# Altium schematic symbol library dungvh03-CERN_Logic.SchLib: 486 symbols (part 13 of 54)
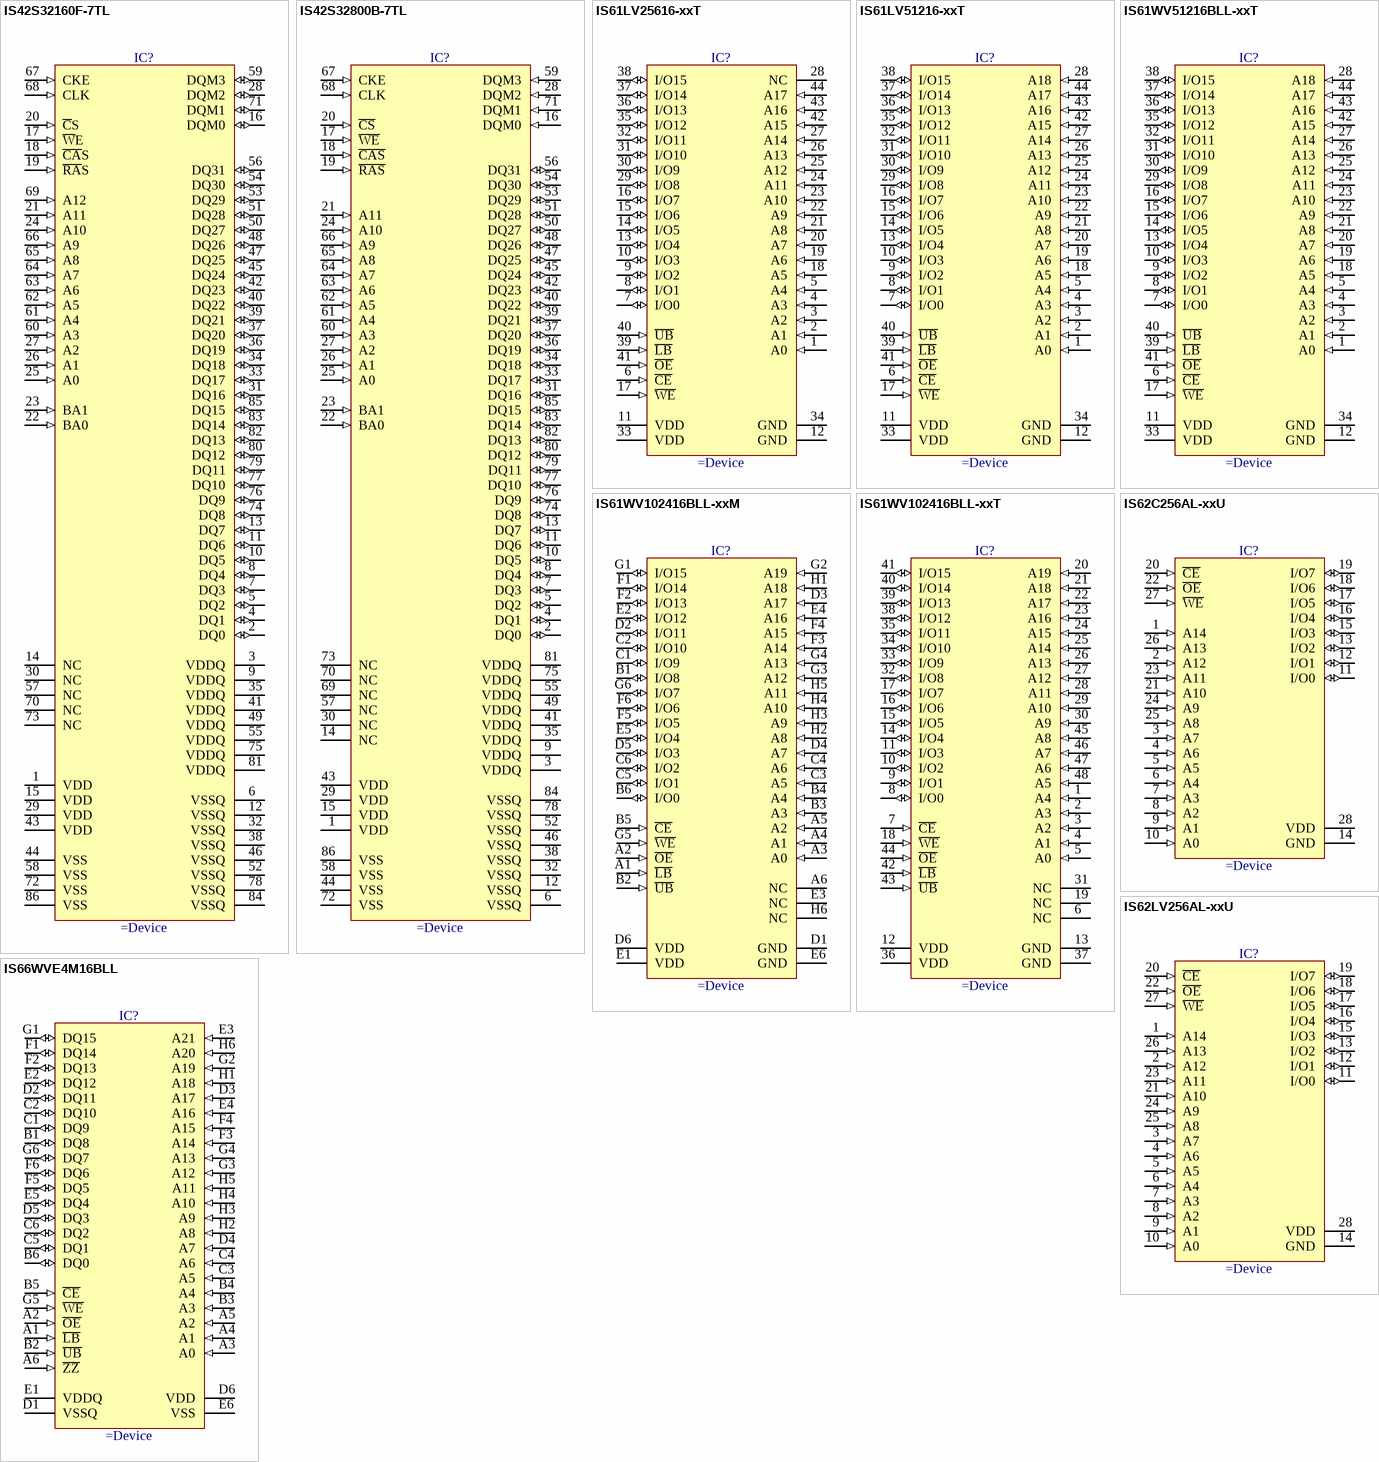
[diagram p273: symbols IS42S32160F-7TL to IS66WVE4M16BLL]

## IS42S32800B-7TL
designator IC?
3.3V, 2M Words x 32 Bits x 4 Banks (256-MBIT) Synchronous Dynamic RAM (SDRAM)
pins: 1 VDD (power), 2 DQ0 (io), 3 VDDQ (power), 4 DQ1 (io), 5 DQ2 (io), 6 VSSQ (power), 7 DQ3 (io), 8 DQ4 (io), 9 VDDQ (power), 10 DQ5 (io), 11 DQ6 (io), 12 VSSQ (power), 13 DQ7 (io), 14 NC, 15 VDD (power), 16 DQM0 (in), 17 ~{WE} (in), 18 ~{CAS} (in), 19 ~{RAS} (in), 20 ~{CS} (in), 21 A11 (in), 22 BA0 (in), 23 BA1 (in), 24 A10 (in), 25 A0 (in), 26 A1 (in), 27 A2 (in), 28 DQM2 (in), 29 VDD (power), 30 NC, 31 DQ16 (io), 32 VSSQ (power), 33 DQ17 (io), 34 DQ18 (io), 35 VDDQ (power), 36 DQ19 (io), 37 DQ20 (io), 38 VSSQ (power), 39 DQ21 (io), 40 DQ22 (io), 41 VDDQ (power), 42 DQ23 (io), 43 VDD (power), 44 VSS (power), 45 DQ24 (io), 46 VSSQ (power), 47 DQ25 (io), 48 DQ26 (io), 49 VDDQ (power), 50 DQ27 (io), 51 DQ28 (io), 52 VSSQ (power), 53 DQ29 (io), 54 DQ30 (io), 55 VDDQ (power), 56 DQ31 (io), 57 NC, 58 VSS (power), 59 DQM3 (in), 60 A3 (in), 61 A4 (in), 62 A5 (in), 63 A6 (in), 64 A7 (in), 65 A8 (in), 66 A9 (in), 67 CKE (in), 68 CLK (in), 69 NC, 70 NC, 71 DQM1 (in), 72 VSS (power), 73 NC, 74 DQ8 (io), 75 VDDQ (power), 76 DQ9 (io), 77 DQ10 (io), 78 VSSQ (power), 79 DQ11 (io), 80 DQ12 (io), 81 VDDQ (power), 82 DQ13 (io), 83 DQ14 (io), 84 VSSQ (power), 85 DQ15 (io), 86 VSS (power)

## IS61LV25616-xxT
designator IC?
256K x 16 High Speed Asynchronous CMOS Static RAM With 3.3V Supply
pins: 1 A0 (in), 2 A1 (in), 3 A2 (in), 4 A3 (in), 5 A4 (in), 6 ~{CE} (in), 7 I/O0 (io), 8 I/O1 (io), 9 I/O2 (io), 10 I/O3 (io), 11 VDD (power), 12 GND (power), 13 I/O4 (io), 14 I/O5 (io), 15 I/O6 (io), 16 I/O7 (io), 17 ~{WE} (in), 18 A5 (in), 19 A6 (in), 20 A7 (in), 21 A8 (in), 22 A9 (in), 23 A10 (in), 24 A11 (in), 25 A12 (in), 26 A13 (in), 27 A14 (in), 28 NC, 29 I/O8 (io), 30 I/O9 (io), 31 I/O10 (io), 32 I/O11 (io), 33 VDD (power), 34 GND (power), 35 I/O12 (io), 36 I/O13 (io), 37 I/O14 (io), 38 I/O15 (io), 39 ~{LB} (in), 40 ~{UB} (in), 41 ~{OE} (in), 42 A15 (in), 43 A16 (in), 44 A17 (in)

## IS61LV51216-xxT
designator IC?
512K x 16 High Speed Asynchronous CMOS Static RAM With 3.3V Supply
pins: 1 A0 (in), 2 A1 (in), 3 A2 (in), 4 A3 (in), 5 A4 (in), 6 ~{CE} (in), 7 I/O0 (io), 8 I/O1 (io), 9 I/O2 (io), 10 I/O3 (io), 11 VDD (power), 12 GND (power), 13 I/O4 (io), 14 I/O5 (io), 15 I/O6 (io), 16 I/O7 (io), 17 ~{WE} (in), 18 A5 (in), 19 A6 (in), 20 A7 (in), 21 A8 (in), 22 A9 (in), 23 A10 (in), 24 A11 (in), 25 A12 (in), 26 A13 (in), 27 A14 (in), 28 A18 (in), 29 I/O8 (io), 30 I/O9 (io), 31 I/O10 (io), 32 I/O11 (io), 33 VDD (power), 34 GND (power), 35 I/O12 (io), 36 I/O13 (io), 37 I/O14 (io), 38 I/O15 (io), 39 ~{LB} (in), 40 ~{UB} (in), 41 ~{OE} (in), 42 A15 (in), 43 A16 (in), 44 A17 (in)

## IS61WV51216BLL-xxT
designator IC?
512K x 16 High Speed Asynchronous CMOS Static RAM With 3.3V Supply
pins: 1 A0 (in), 2 A1 (in), 3 A2 (in), 4 A3 (in), 5 A4 (in), 6 ~{CE} (in), 7 I/O0 (io), 8 I/O1 (io), 9 I/O2 (io), 10 I/O3 (io), 11 VDD (power), 12 GND (power), 13 I/O4 (io), 14 I/O5 (io), 15 I/O6 (io), 16 I/O7 (io), 17 ~{WE} (in), 18 A5 (in), 19 A6 (in), 20 A7 (in), 21 A8 (in), 22 A9 (in), 23 A10 (in), 24 A11 (in), 25 A12 (in), 26 A13 (in), 27 A14 (in), 28 A18 (in), 29 I/O8 (io), 30 I/O9 (io), 31 I/O10 (io), 32 I/O11 (io), 33 VDD (power), 34 GND (power), 35 I/O12 (io), 36 I/O13 (io), 37 I/O14 (io), 38 I/O15 (io), 39 ~{LB} (in), 40 ~{UB} (in), 41 ~{OE} (in), 42 A15 (in), 43 A16 (in), 44 A17 (in)

## IS61WV102416BLL-xxM
designator IC?
1M x 16 High Speed Asynchronous CMOS Static RAM With 3.3V Supply
pins: A1 ~{LB} (in), A2 ~{OE} (in), A3 A0 (in), A4 A1 (in), A5 A2 (in), A6 NC, B1 I/O8 (io), B2 ~{UB} (in), B3 A3 (in), B4 A4 (in), B5 ~{CE} (in), B6 I/O0 (io), C1 I/O9 (io), C2 I/O10 (io), C3 A5 (in), C4 A6 (in), C5 I/O1 (io), C6 I/O2 (io), D1 GND (power), D2 I/O11 (io), D3 A17 (in), D4 A7 (in), D5 I/O3 (io), D6 VDD (power), E1 VDD (power), E2 I/O12 (io), E3 NC, E4 A16 (in), E5 I/O4 (io), E6 GND (power), F1 I/O14 (io), F2 I/O13 (io), F3 A14 (in), F4 A15 (in), F5 I/O5 (io), F6 I/O6 (io), G1 I/O15 (io), G2 A19 (in), G3 A12 (in), G4 A13 (in), G5 ~{WE} (in), G6 I/O7 (io), H1 A18 (in), H2 A8 (in), H3 A9 (in), H4 A10 (in), H5 A11 (in), H6 NC

## IS61WV102416BLL-xxT
designator IC?
1M x 16 High Speed Asynchronous CMOS Static RAM With 3.3V Supply
pins: 1 A4 (in), 2 A3 (in), 3 A2 (in), 4 A1 (in), 5 A0 (in), 6 NC, 7 ~{CE} (in), 8 I/O0 (io), 9 I/O1 (io), 10 I/O2 (io), 11 I/O3 (io), 12 VDD (power), 13 GND (power), 14 I/O4 (io), 15 I/O5 (io), 16 I/O6 (io), 17 I/O7 (io), 18 ~{WE} (in), 19 NC, 20 A19 (in), 21 A18 (in), 22 A17 (in), 23 A16 (in), 24 A15 (in), 25 A14 (in), 26 A13 (in), 27 A12 (in), 28 A11 (in), 29 A10 (in), 30 A9 (in), 31 NC, 32 I/O8 (io), 33 I/O9 (io), 34 I/O10 (io), 35 I/O11 (io), 36 VDD (power), 37 GND (power), 38 I/O12 (io), 39 I/O13 (io), 40 I/O14 (io), 41 I/O15 (io), 42 ~{LB} (in), 43 ~{UB} (in), 44 ~{OE} (in), 45 A8 (in), 46 A7 (in), 47 A6 (in), 48 A5 (in)

## IS62C256AL-xxU
designator IC?
32K x 8 Low Power CMOS Static RAM
pins: 1 A14 (in), 2 A12 (in), 3 A7 (in), 4 A6 (in), 5 A5 (in), 6 A4 (in), 7 A3 (in), 8 A2 (in), 9 A1 (in), 10 A0 (in), 11 I/O0 (io), 12 I/O1 (io), 13 I/O2 (io), 14 GND (power), 15 I/O3 (io), 16 I/O4 (io), 17 I/O5 (io), 18 I/O6 (io), 19 I/O7 (io), 20 ~{CE} (in), 21 A10 (in), 22 ~{OE} (in), 23 A11 (in), 24 A9 (in), 25 A8 (in), 26 A13 (in), 27 ~{WE} (in), 28 VDD (power)

## IS62LV256AL-xxU
designator IC?
3.3V 32K x 8 CMOS Static RAM
pins: 1 A14 (in), 2 A12 (in), 3 A7 (in), 4 A6 (in), 5 A5 (in), 6 A4 (in), 7 A3 (in), 8 A2 (in), 9 A1 (in), 10 A0 (in), 11 I/O0 (io), 12 I/O1 (io), 13 I/O2 (io), 14 GND (power), 15 I/O3 (io), 16 I/O4 (io), 17 I/O5 (io), 18 I/O6 (io), 19 I/O7 (io), 20 ~{CE} (in), 21 A10 (in), 22 ~{OE} (in), 23 A11 (in), 24 A9 (in), 25 A8 (in), 26 A13 (in), 27 ~{WE} (in), 28 VDD (power)

## IS66WVE4M16BLL
designator IC?
3.0V, 4M x 16 (64 Mb) Core Async/Page PSRAM
pins: A1 ~{LB} (in), A2 ~{OE} (in), A3 A0 (in), A4 A1 (in), A5 A2 (in), A6 ~{ZZ} (in), B1 DQ8 (io), B2 ~{UB} (in), B3 A3 (in), B4 A4 (in), B5 ~{CE} (in), B6 DQ0 (io), C1 DQ9 (io), C2 DQ10 (io), C3 A5 (in), C4 A6 (in), C5 DQ1 (io), C6 DQ2 (io), D1 VSSQ (power), D2 DQ11 (io), D3 A17 (in), D4 A7 (in), D5 DQ3 (io), D6 VDD (power), E1 VDDQ (power), E2 DQ12 (io), E3 A21 (in), E4 A16 (in), E5 DQ4 (io), E6 VSS (power), F1 DQ14 (io), F2 DQ13 (io), F3 A14 (in), F4 A15 (in), F5 DQ5 (io), F6 DQ6 (io), G1 DQ15 (io), G2 A19 (in), G3 A12 (in), G4 A13 (in), G5 ~{WE} (in), G6 DQ7 (io), H1 A18 (in), H2 A8 (in), H3 A9 (in), H4 A10 (in), H5 A11 (in), H6 A20 (in)

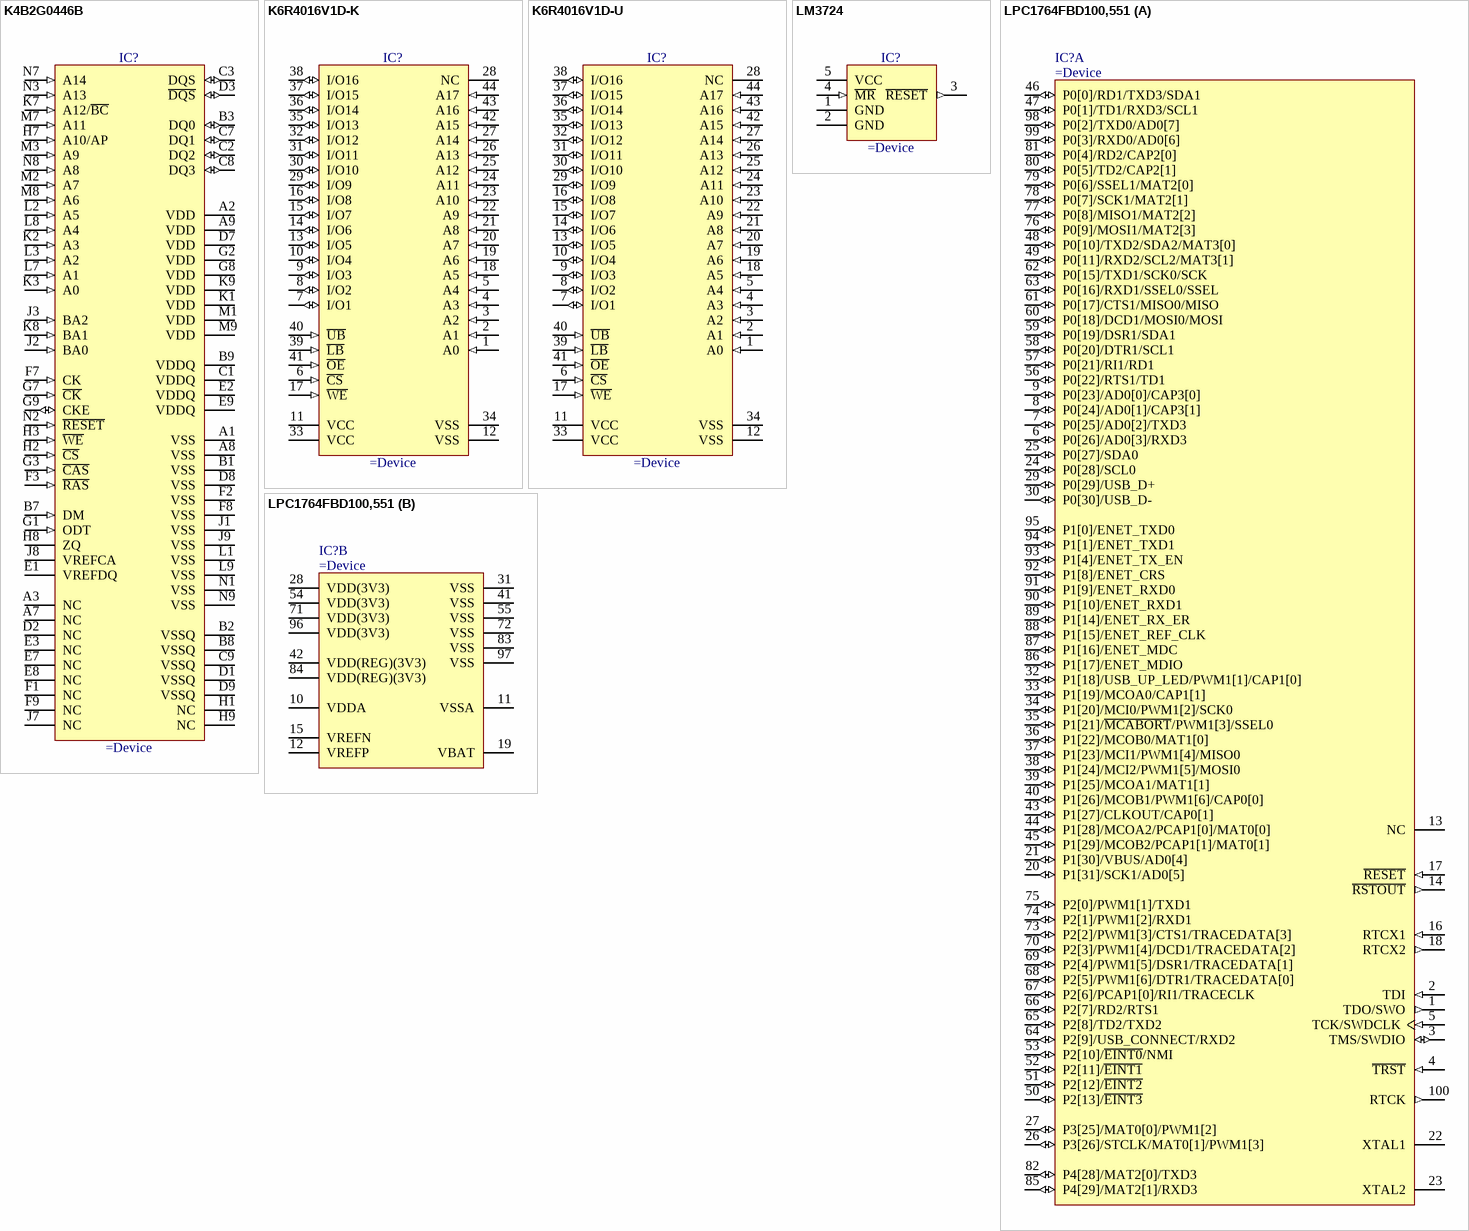
[diagram p74: symbols K4B2G0446B to LPC1764FBD100,551]

## K4B2G0446B
designator IC?
2Gb B-die DDR3 SDRAM Specification
pins: A1 VSS (power), A2 VDD (power), A3 NC, A7 NC, A8 VSS (power), A9 VDD (power), B1 VSS (power), B2 VSSQ (power), B3 DQ0 (io), B7 DM (in), B8 VSSQ (power), B9 VDDQ (power), C1 VDDQ (power), C2 DQ2 (io), C3 DQS (io), C7 DQ1 (io), C8 DQ3 (io), C9 VSSQ (power), D1 VSSQ (power), D2 NC, D3 ~{DQS} (io), D7 VDD (power), D8 VSS (power), D9 VSSQ (power), E1 VREFDQ (power), E2 VDDQ (power), E3 NC, E7 NC, E8 NC, E9 VDDQ (power), F1 NC, F2 VSS (power), F3 ~{RAS} (in), F7 CK (in), F8 VSS (power), F9 NC, G1 ODT (in), G2 VDD (power), G3 ~{CAS} (in), G7 ~{CK} (in), G8 VDD (power), G9 CKE (io), H1 NC, H2 ~{CS} (in), H3 ~{WE} (in), H7 A10/AP (in), H8 ZQ (power), H9 NC (power), J1 VSS, J2 BA0 (in), J3 BA2 (in), J7 NC, J8 VREFCA (power), J9 VSS (power), K1 VDD (power), K2 A3 (in), K3 A0 (in), K7 A12/~{BC} (in), K8 BA1 (in), K9 VDD (power), L1 VSS (power), L2 A5 (in), L3 A2 (in), L7 A1 (in), L8 A4 (in), L9 VSS (power), M1 VDD (power), M2 A7 (in), M3 A9 (in), M7 A11 (in), M8 A6 (in), M9 VDD (power), N1 VSS (power), N2 ~{RESET} (in), N3 A13 (in), N7 A14 (in), N8 A8 (in), N9 VSS (power)

## K6R4016V1D-K
designator IC?
4Mbit (256K x 16 Bit) High-Speed CMOS Static RAM
pins: 1 A0 (in), 2 A1 (in), 3 A2 (in), 4 A3 (in), 5 A4 (in), 6 ~{CS} (in), 7 I/O1 (io), 8 I/O2 (io), 9 I/O3 (io), 10 I/O4 (io), 11 VCC (power), 12 VSS (power), 13 I/O5 (io), 14 I/O6 (io), 15 I/O7 (io), 16 I/O8 (io), 17 ~{WE} (in), 18 A5 (in), 19 A6 (in), 20 A7 (in), 21 A8 (in), 22 A9 (in), 23 A10 (in), 24 A11 (in), 25 A12 (in), 26 A13 (in), 27 A14 (in), 28 NC, 29 I/O9 (io), 30 I/O10 (io), 31 I/O11 (io), 32 I/O12 (io), 33 VCC (power), 34 VSS (power), 35 I/O13 (io), 36 I/O14 (io), 37 I/O15 (io), 38 I/O16 (io), 39 ~{LB} (in), 40 ~{UB} (in), 41 ~{OE} (in), 42 A15 (in), 43 A16 (in), 44 A17 (in)

## K6R4016V1D-U
designator IC?
4Mbit (256K x 16 Bit) High-Speed CMOS Static RAM
pins: 1 A0 (in), 2 A1 (in), 3 A2 (in), 4 A3 (in), 5 A4 (in), 6 ~{CS} (in), 7 I/O1 (io), 8 I/O2 (io), 9 I/O3 (io), 10 I/O4 (io), 11 VCC (power), 12 VSS (power), 13 I/O5 (io), 14 I/O6 (io), 15 I/O7 (io), 16 I/O8 (io), 17 ~{WE} (in), 18 A5 (in), 19 A6 (in), 20 A7 (in), 21 A8 (in), 22 A9 (in), 23 A10 (in), 24 A11 (in), 25 A12 (in), 26 A13 (in), 27 A14 (in), 28 NC, 29 I/O9 (io), 30 I/O10 (io), 31 I/O11 (io), 32 I/O12 (io), 33 VCC (power), 34 VSS (power), 35 I/O13 (io), 36 I/O14 (io), 37 I/O15 (io), 38 I/O16 (io), 39 ~{LB} (in), 40 ~{UB} (in), 41 ~{OE} (in), 42 A15 (in), 43 A16 (in), 44 A17 (in)

## LM3724
designator IC?
5-Pin Microprocessor Reset Circuit
pins: 1 GND (power), 2 GND (power), 3 ~{RESET} (out), 4 ~{MR} (in), 5 VCC (power)

## LPC1764FBD100,551
designator IC?
Cortex-M3, 32-Bit ARM MCU, 128kB flash, 32kB SRAM, Ethernet, USB 2.0 Device, CAN, 12-Bit ADC
part A pins: 1 TDO/SWO (out), 2 TDI (in), 3 TMS/SWDIO (io), 4 ~{TRST} (in), 5 TCK/SWDCLK (in), 6 P0[26]/AD0[3]/RXD3 (io), 7 P0[25]/AD0[2]/TXD3 (io), 8 P0[24]/AD0[1]/CAP3[1] (io), 9 P0[23]/AD0[0]/CAP3[0] (io), 13 NC, 14 ~{RSTOUT} (out), 16 RTCX1 (in), 17 ~{RESET} (in), 18 RTCX2 (out), 20 P1[31]/SCK1/AD0[5] (io), 21 P1[30]/VBUS/AD0[4] (io), 22 XTAL1, 23 XTAL2, 24 P0[28]/SCL0 (io), 25 P0[27]/SDA0 (io), 26 P3[26]/STCLK/MAT0[1]/PWM1[3] (io), 27 P3[25]/MAT0[0]/PWM1[2] (io), 29 P0[29]/USB_D+ (io), 30 P0[30]/USB_D- (io), 32 P1[18]/USB_UP_LED/PWM1[1]/CAP1[0] (io), 33 P1[19]/MCOA0/CAP1[1] (io), 34 P1[20]/MCI0/PWM1[2]/SCK0 (io), 35 P1[21]/~{MCABORT}/PWM1[3]/SSEL0 (io), 36 P1[22]/MCOB0/MAT1[0] (io), 37 P1[23]/MCI1/PWM1[4]/MISO0 (io), 38 P1[24]/MCI2/PWM1[5]/MOSI0 (io), 39 P1[25]/MCOA1/MAT1[1] (io), 40 P1[26]/MCOB1/PWM1[6]/CAP0[0] (io), 43 P1[27]/CLKOUT/CAP0[1] (io), 44 P1[28]/MCOA2/PCAP1[0]/MAT0[0] (io), 45 P1[29]/MCOB2/PCAP1[1]/MAT0[1] (io), 46 P0[0]/RD1/TXD3/SDA1 (io), 47 P0[1]/TD1/RXD3/SCL1 (io), 48 P0[10]/TXD2/SDA2/MAT3[0] (io), 49 P0[11]/RXD2/SCL2/MAT3[1] (io), 50 P2[13]/~{EINT3} (io), 51 P2[12]/~{EINT2} (io), 52 P2[11]/~{EINT1} (io), 53 P2[10]/~{EINT0}/NMI (io), 56 P0[22]/RTS1/TD1 (io), 57 P0[21]/RI1/RD1 (io), 58 P0[20]/DTR1/SCL1 (io), 59 P0[19]/DSR1/SDA1 (io), 60 P0[18]/DCD1/MOSI0/MOSI (io), 61 P0[17]/CTS1/MISO0/MISO (io), 62 P0[15]/TXD1/SCK0/SCK (io), 63 P0[16]/RXD1/SSEL0/SSEL (io), 64 P2[9]/USB_CONNECT/RXD2 (io), 65 P2[8]/TD2/TXD2 (io), 66 P2[7]/RD2/RTS1 (io), 67 P2[6]/PCAP1[0]/RI1/TRACECLK (io), 68 P2[5]/PWM1[6]/DTR1/TRACEDATA[0] (io), 69 P2[4]/PWM1[5]/DSR1/TRACEDATA[1] (io), 70 P2[3]/PWM1[4]/DCD1/TRACEDATA[2] (io), 73 P2[2]/PWM1[3]/CTS1/TRACEDATA[3] (io), 74 P2[1]/PWM1[2]/RXD1 (io), 75 P2[0]/PWM1[1]/TXD1 (io), 76 P0[9]/MOSI1/MAT2[3] (io), 77 P0[8]/MISO1/MAT2[2] (io), 78 P0[7]/SCK1/MAT2[1] (io), 79 P0[6]/SSEL1/MAT2[0] (io), 80 P0[5]/TD2/CAP2[1] (io), 81 P0[4]/RD2/CAP2[0] (io), 82 P4[28]/MAT2[0]/TXD3 (io), 85 P4[29]/MAT2[1]/RXD3 (io), 86 P1[17]/ENET_MDIO (io), 87 P1[16]/ENET_MDC (io), 88 P1[15]/ENET_REF_CLK (io), 89 P1[14]/ENET_RX_ER (io), 90 P1[10]/ENET_RXD1 (io), 91 P1[9]/ENET_RXD0 (io), 92 P1[8]/ENET_CRS (io), 93 P1[4]/ENET_TX_EN (io), 94 P1[1]/ENET_TXD1 (io), 95 P1[0]/ENET_TXD0 (io), 98 P0[2]/TXD0/AD0[7] (io), 99 P0[3]/RXD0/AD0[6] (io), 100 RTCK (out)
part B pins: 10 VDDA (power), 11 VSSA (power), 12 VREFP (power), 15 VREFN (power), 19 VBAT (power), 28 VDD(3V3) (power), 31 VSS (power), 41 VSS (power), 42 VDD(REG)(3V3) (power), 54 VDD(3V3) (power), 55 VSS (power), 71 VDD(3V3) (power), 72 VSS (power), 83 VSS (power), 84 VDD(REG)(3V3) (power), 96 VDD(3V3) (power), 97 VSS (power)

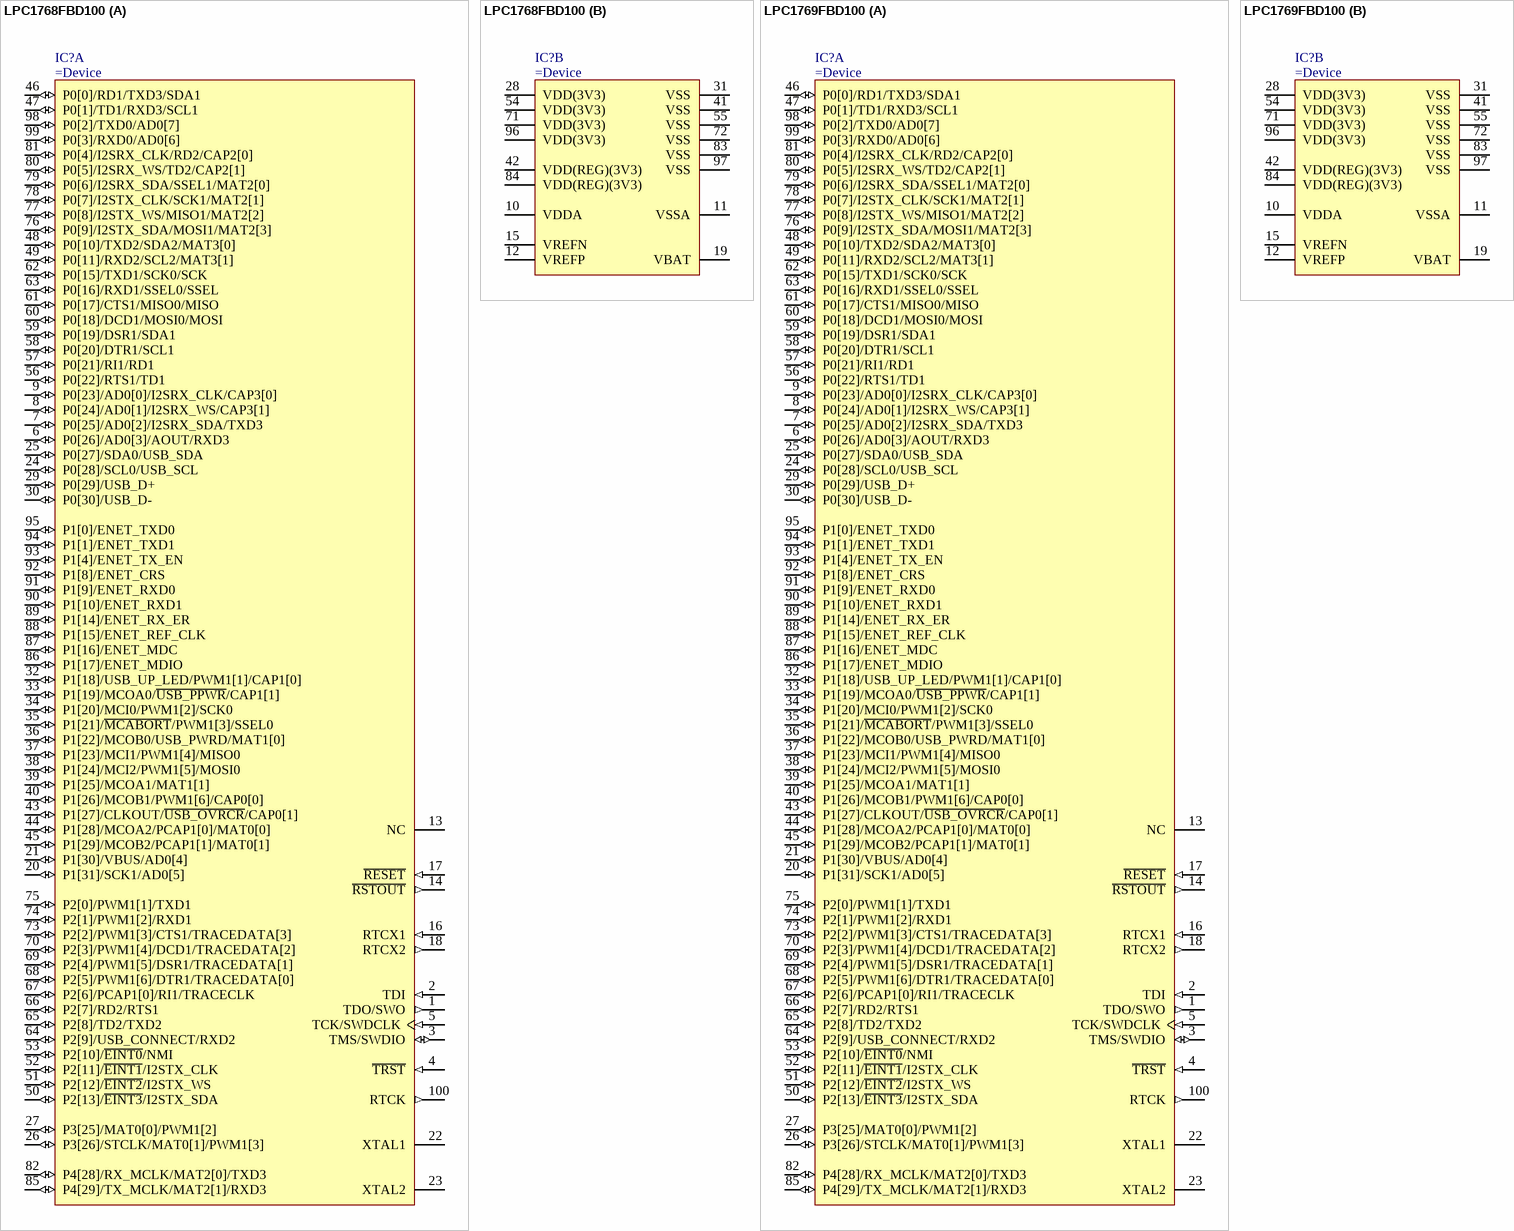
[diagram p75: symbols LPC1768FBD100 to LPC1769FBD100]

## LPC1768FBD100
designator IC?
LPC1768 Series 64kB 100MHz 32-Bit ARM Cortex-M3 Microcontroller
part A pins: 1 TDO/SWO (out), 2 TDI (in), 3 TMS/SWDIO (io), 4 ~{TRST} (in), 5 TCK/SWDCLK (in), 6 P0[26]/AD0[3]/AOUT/RXD3 (io), 7 P0[25]/AD0[2]/I2SRX_SDA/TXD3 (io), 8 P0[24]/AD0[1]/I2SRX_WS/CAP3[1] (io), 9 P0[23]/AD0[0]/I2SRX_CLK/CAP3[0] (io), 13 NC, 14 ~{RSTOUT} (out), 16 RTCX1 (in), 17 ~{RESET} (in), 18 RTCX2 (out), 20 P1[31]/SCK1/AD0[5] (io), 21 P1[30]/VBUS/AD0[4] (io), 22 XTAL1, 23 XTAL2, 24 P0[28]/SCL0/USB_SCL (io), 25 P0[27]/SDA0/USB_SDA (io), 26 P3[26]/STCLK/MAT0[1]/PWM1[3] (io), 27 P3[25]/MAT0[0]/PWM1[2] (io), 29 P0[29]/USB_D+ (io), 30 P0[30]/USB_D- (io), 32 P1[18]/USB_UP_LED/PWM1[1]/CAP1[0] (io), 33 P1[19]/MCOA0/~{USB_PPWR}/CAP1[1] (io), 34 P1[20]/MCI0/PWM1[2]/SCK0 (io), 35 P1[21]/~{MCABORT}/PWM1[3]/SSEL0 (io), 36 P1[22]/MCOB0/USB_PWRD/MAT1[0] (io), 37 P1[23]/MCI1/PWM1[4]/MISO0 (io), 38 P1[24]/MCI2/PWM1[5]/MOSI0 (io), 39 P1[25]/MCOA1/MAT1[1] (io), 40 P1[26]/MCOB1/PWM1[6]/CAP0[0] (io), 43 P1[27]/CLKOUT/~{USB_OVRCR}/CAP0[1] (io), 44 P1[28]/MCOA2/PCAP1[0]/MAT0[0] (io), 45 P1[29]/MCOB2/PCAP1[1]/MAT0[1] (io), 46 P0[0]/RD1/TXD3/SDA1 (io), 47 P0[1]/TD1/RXD3/SCL1 (io), 48 P0[10]/TXD2/SDA2/MAT3[0] (io), 49 P0[11]/RXD2/SCL2/MAT3[1] (io), 50 P2[13]/~{EINT3}/I2STX_SDA (io), 51 P2[12]/~{EINT2}/I2STX_WS (io), 52 P2[11]/~{EINT1}/I2STX_CLK (io), 53 P2[10]/~{EINT0}/NMI (io), 56 P0[22]/RTS1/TD1 (io), 57 P0[21]/RI1/RD1 (io), 58 P0[20]/DTR1/SCL1 (io), 59 P0[19]/DSR1/SDA1 (io), 60 P0[18]/DCD1/MOSI0/MOSI (io), 61 P0[17]/CTS1/MISO0/MISO (io), 62 P0[15]/TXD1/SCK0/SCK (io), 63 P0[16]/RXD1/SSEL0/SSEL (io), 64 P2[9]/USB_CONNECT/RXD2 (io), 65 P2[8]/TD2/TXD2 (io), 66 P2[7]/RD2/RTS1 (io), 67 P2[6]/PCAP1[0]/RI1/TRACECLK (io), 68 P2[5]/PWM1[6]/DTR1/TRACEDATA[0] (io), 69 P2[4]/PWM1[5]/DSR1/TRACEDATA[1] (io), 70 P2[3]/PWM1[4]/DCD1/TRACEDATA[2] (io), 73 P2[2]/PWM1[3]/CTS1/TRACEDATA[3] (io), 74 P2[1]/PWM1[2]/RXD1 (io), 75 P2[0]/PWM1[1]/TXD1 (io), 76 P0[9]/I2STX_SDA/MOSI1/MAT2[3] (io), 77 P0[8]/I2STX_WS/MISO1/MAT2[2] (io), 78 P0[7]/I2STX_CLK/SCK1/MAT2[1] (io), 79 P0[6]/I2SRX_SDA/SSEL1/MAT2[0] (io), 80 P0[5]/I2SRX_WS/TD2/CAP2[1] (io), 81 P0[4]/I2SRX_CLK/RD2/CAP2[0] (io), 82 P4[28]/RX_MCLK/MAT2[0]/TXD3 (io), 85 P4[29]/TX_MCLK/MAT2[1]/RXD3 (io), 86 P1[17]/ENET_MDIO (io), 87 P1[16]/ENET_MDC (io), 88 P1[15]/ENET_REF_CLK (io), 89 P1[14]/ENET_RX_ER (io), 90 P1[10]/ENET_RXD1 (io), 91 P1[9]/ENET_RXD0 (io), 92 P1[8]/ENET_CRS (io), 93 P1[4]/ENET_TX_EN (io), 94 P1[1]/ENET_TXD1 (io), 95 P1[0]/ENET_TXD0 (io), 98 P0[2]/TXD0/AD0[7] (io), 99 P0[3]/RXD0/AD0[6] (io), 100 RTCK (out)
part B pins: 10 VDDA (power), 11 VSSA (power), 12 VREFP (power), 15 VREFN (power), 19 VBAT (power), 28 VDD(3V3) (power), 31 VSS (power), 41 VSS (power), 42 VDD(REG)(3V3) (power), 54 VDD(3V3) (power), 55 VSS (power), 71 VDD(3V3) (power), 72 VSS (power), 83 VSS (power), 84 VDD(REG)(3V3) (power), 96 VDD(3V3) (power), 97 VSS (power)

## LPC1769FBD100
designator IC?
LPC1768 Series 64kB 120MHz 32-Bit ARM Cortex-M3 Microcontroller
part A pins: 1 TDO/SWO (out), 2 TDI (in), 3 TMS/SWDIO (io), 4 ~{TRST} (in), 5 TCK/SWDCLK (in), 6 P0[26]/AD0[3]/AOUT/RXD3 (io), 7 P0[25]/AD0[2]/I2SRX_SDA/TXD3 (io), 8 P0[24]/AD0[1]/I2SRX_WS/CAP3[1] (io), 9 P0[23]/AD0[0]/I2SRX_CLK/CAP3[0] (io), 13 NC, 14 ~{RSTOUT} (out), 16 RTCX1 (in), 17 ~{RESET} (in), 18 RTCX2 (out), 20 P1[31]/SCK1/AD0[5] (io), 21 P1[30]/VBUS/AD0[4] (io), 22 XTAL1, 23 XTAL2, 24 P0[28]/SCL0/USB_SCL (io), 25 P0[27]/SDA0/USB_SDA (io), 26 P3[26]/STCLK/MAT0[1]/PWM1[3] (io), 27 P3[25]/MAT0[0]/PWM1[2] (io), 29 P0[29]/USB_D+ (io), 30 P0[30]/USB_D- (io), 32 P1[18]/USB_UP_LED/PWM1[1]/CAP1[0] (io), 33 P1[19]/MCOA0/~{USB_PPWR}/CAP1[1] (io), 34 P1[20]/MCI0/PWM1[2]/SCK0 (io), 35 P1[21]/~{MCABORT}/PWM1[3]/SSEL0 (io), 36 P1[22]/MCOB0/USB_PWRD/MAT1[0] (io), 37 P1[23]/MCI1/PWM1[4]/MISO0 (io), 38 P1[24]/MCI2/PWM1[5]/MOSI0 (io), 39 P1[25]/MCOA1/MAT1[1] (io), 40 P1[26]/MCOB1/PWM1[6]/CAP0[0] (io), 43 P1[27]/CLKOUT/~{USB_OVRCR}/CAP0[1] (io), 44 P1[28]/MCOA2/PCAP1[0]/MAT0[0] (io), 45 P1[29]/MCOB2/PCAP1[1]/MAT0[1] (io), 46 P0[0]/RD1/TXD3/SDA1 (io), 47 P0[1]/TD1/RXD3/SCL1 (io), 48 P0[10]/TXD2/SDA2/MAT3[0] (io), 49 P0[11]/RXD2/SCL2/MAT3[1] (io), 50 P2[13]/~{EINT3}/I2STX_SDA (io), 51 P2[12]/~{EINT2}/I2STX_WS (io), 52 P2[11]/~{EINT1}/I2STX_CLK (io), 53 P2[10]/~{EINT0}/NMI (io), 56 P0[22]/RTS1/TD1 (io), 57 P0[21]/RI1/RD1 (io), 58 P0[20]/DTR1/SCL1 (io), 59 P0[19]/DSR1/SDA1 (io), 60 P0[18]/DCD1/MOSI0/MOSI (io), 61 P0[17]/CTS1/MISO0/MISO (io), 62 P0[15]/TXD1/SCK0/SCK (io), 63 P0[16]/RXD1/SSEL0/SSEL (io), 64 P2[9]/USB_CONNECT/RXD2 (io), 65 P2[8]/TD2/TXD2 (io), 66 P2[7]/RD2/RTS1 (io), 67 P2[6]/PCAP1[0]/RI1/TRACECLK (io), 68 P2[5]/PWM1[6]/DTR1/TRACEDATA[0] (io), 69 P2[4]/PWM1[5]/DSR1/TRACEDATA[1] (io), 70 P2[3]/PWM1[4]/DCD1/TRACEDATA[2] (io), 73 P2[2]/PWM1[3]/CTS1/TRACEDATA[3] (io), 74 P2[1]/PWM1[2]/RXD1 (io), 75 P2[0]/PWM1[1]/TXD1 (io), 76 P0[9]/I2STX_SDA/MOSI1/MAT2[3] (io), 77 P0[8]/I2STX_WS/MISO1/MAT2[2] (io), 78 P0[7]/I2STX_CLK/SCK1/MAT2[1] (io), 79 P0[6]/I2SRX_SDA/SSEL1/MAT2[0] (io), 80 P0[5]/I2SRX_WS/TD2/CAP2[1] (io), 81 P0[4]/I2SRX_CLK/RD2/CAP2[0] (io), 82 P4[28]/RX_MCLK/MAT2[0]/TXD3 (io), 85 P4[29]/TX_MCLK/MAT2[1]/RXD3 (io), 86 P1[17]/ENET_MDIO (io), 87 P1[16]/ENET_MDC (io), 88 P1[15]/ENET_REF_CLK (io), 89 P1[14]/ENET_RX_ER (io), 90 P1[10]/ENET_RXD1 (io), 91 P1[9]/ENET_RXD0 (io), 92 P1[8]/ENET_CRS (io), 93 P1[4]/ENET_TX_EN (io), 94 P1[1]/ENET_TXD1 (io), 95 P1[0]/ENET_TXD0 (io), 98 P0[2]/TXD0/AD0[7] (io), 99 P0[3]/RXD0/AD0[6] (io), 100 RTCK (out)
part B pins: 10 VDDA (power), 11 VSSA (power), 12 VREFP (power), 15 VREFN (power), 19 VBAT (power), 28 VDD(3V3) (power), 31 VSS (power), 41 VSS (power), 42 VDD(REG)(3V3) (power), 54 VDD(3V3) (power), 55 VSS (power), 71 VDD(3V3) (power), 72 VSS (power), 83 VSS (power), 84 VDD(REG)(3V3) (power), 96 VDD(3V3) (power), 97 VSS (power)

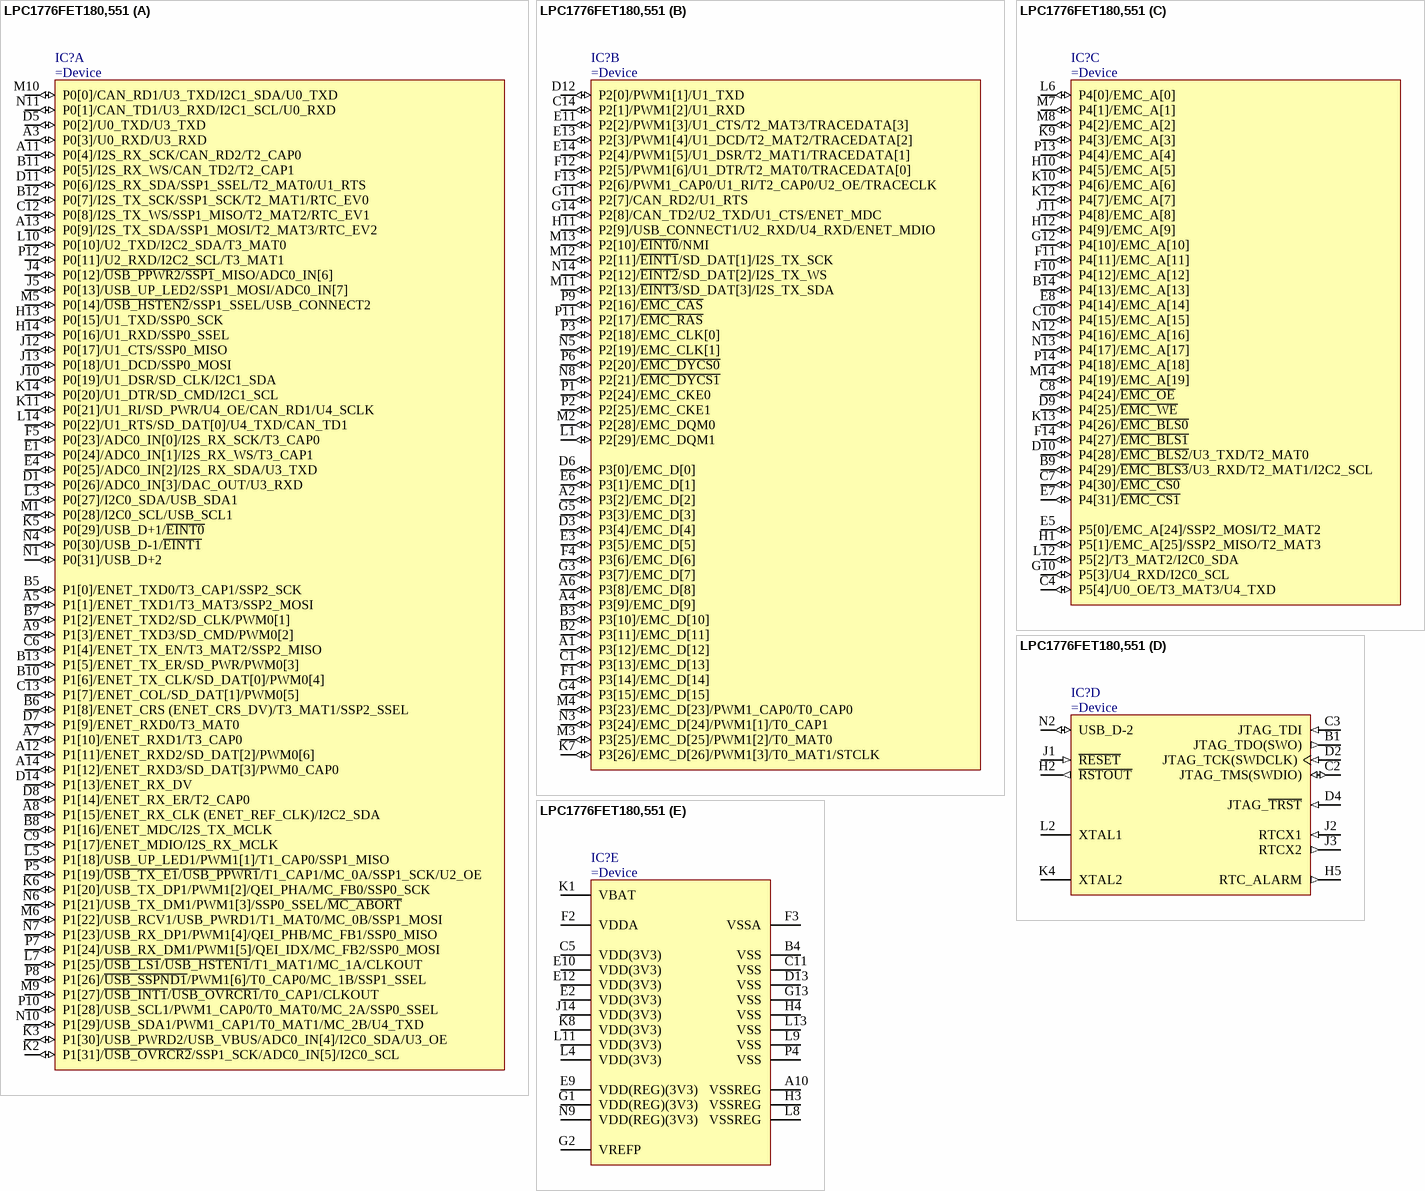
[diagram p76: symbol LPC1776FET180,551]

## LPC1776FET180,551
designator IC?
32-bit ARM Cortex-M3 MCU, 256kB Flash, 80kB SRAM, Ethernet, USB 2.0 Device/Host/OTG, CAN, 12-Bit ADC
part A pins: A3 P0[3]/U0_RXD/U3_RXD (io), A5 P1[1]/ENET_TXD1/T3_MAT3/SSP2_MOSI (io), A7 P1[10]/ENET_RXD1/T3_CAP0 (io), A8 P1[15]/ENET_RX_CLK (ENET_REF_CLK)/I2C2_SDA (io), A9 P1[3]/ENET_TXD3/SD_CMD/PWM0[2] (io), A11 P0[4]/I2S_RX_SCK/CAN_RD2/T2_CAP0 (io), A12 P1[11]/ENET_RXD2/SD_DAT[2]/PWM0[6] (io), A13 P0[9]/I2S_TX_SDA/SSP1_MOSI/T2_MAT3/RTC_EV2 (io), A14 P1[12]/ENET_RXD3/SD_DAT[3]/PWM0_CAP0 (io), B5 P1[0]/ENET_TXD0/T3_CAP1/SSP2_SCK (io), B6 P1[8]/ENET_CRS (ENET_CRS_DV)/T3_MAT1/SSP2_SSEL (io), B7 P1[2]/ENET_TXD2/SD_CLK/PWM0[1] (io), B8 P1[16]/ENET_MDC/I2S_TX_MCLK (io), B10 P1[6]/ENET_TX_CLK/SD_DAT[0]/PWM0[4] (io), B11 P0[5]/I2S_RX_WS/CAN_TD2/T2_CAP1 (io), B12 P0[7]/I2S_TX_SCK/SSP1_SCK/T2_MAT1/RTC_EV0 (io), B13 P1[5]/ENET_TX_ER/SD_PWR/PWM0[3] (io), C6 P1[4]/ENET_TX_EN/T3_MAT2/SSP2_MISO (io), C9 P1[17]/ENET_MDIO/I2S_RX_MCLK (io), C12 P0[8]/I2S_TX_WS/SSP1_MISO/T2_MAT2/RTC_EV1 (io), C13 P1[7]/ENET_COL/SD_DAT[1]/PWM0[5] (io), D1 P0[26]/ADC0_IN[3]/DAC_OUT/U3_RXD (io), D5 P0[2]/U0_TXD/U3_TXD (io), D7 P1[9]/ENET_RXD0/T3_MAT0 (io), D8 P1[14]/ENET_RX_ER/T2_CAP0 (io), D11 P0[6]/I2S_RX_SDA/SSP1_SSEL/T2_MAT0/U1_RTS (io), D14 P1[13]/ENET_RX_DV (io), E1 P0[24]/ADC0_IN[1]/I2S_RX_WS/T3_CAP1 (io), E4 P0[25]/ADC0_IN[2]/I2S_RX_SDA/U3_TXD (io), F5 P0[23]/ADC0_IN[0]/I2S_RX_SCK/T3_CAP0 (io), H13 P0[15]/U1_TXD/SSP0_SCK (io), H14 P0[16]/U1_RXD/SSP0_SSEL (io), J4 P0[12]/~{USB_PPWR2/SSP1}_MISO/ADC0_IN[6] (io), J5 P0[13]/USB_UP_LED2/SSP1_MOSI/ADC0_IN[7] (io), J10 P0[19]/U1_DSR/SD_CLK/I2C1_SDA (io), J12 P0[17]/U1_CTS/SSP0_MISO (io), J13 P0[18]/U1_DCD/SSP0_MOSI (io), K2 P1[31]/~{USB_OVRCR2}/SSP1_SCK/ADC0_IN[5]/I2C0_SCL (io), K3 P1[30]/USB_PWRD2/USB_VBUS/ADC0_IN[4]/I2C0_SDA/U3_OE (io), K5 P0[29]/USB_D+1/~{EINT0} (io), K6 P1[20]/USB_TX_DP1/PWM1[2]/QEI_PHA/MC_FB0/SSP0_SCK (io), K11 P0[21]/U1_RI/SD_PWR/U4_OE/CAN_RD1/U4_SCLK (io), K14 P0[20]/U1_DTR/SD_CMD/I2C1_SCL (io), L3 P0[27]/I2C0_SDA/USB_SDA1 (io), L5 P1[18]/USB_UP_LED1/PWM1[1]/T1_CAP0/SSP1_MISO (io), L7 P1[25]/~{USB_LS1}/~{USB_HSTEN1}/T1_MAT1/MC_1A/CLKOUT (io), L10 P0[10]/U2_TXD/I2C2_SDA/T3_MAT0 (io), L14 P0[22]/U1_RTS/SD_DAT[0]/U4_TXD/CAN_TD1 (io), M1 P0[28]/I2C0_SCL/USB_SCL1 (io), M5 P0[14]/~{USB_HSTEN2}/SSP1_SSEL/USB_CONNECT2 (io), M6 P1[22]/USB_RCV1/USB_PWRD1/T1_MAT0/MC_0B/SSP1_MOSI (io), M9 P1[27]/~{USB_INT1}/~{USB_OVRCR1}/T0_CAP1/CLKOUT (io), M10 P0[0]/CAN_RD1/U3_TXD/I2C1_SDA/U0_TXD (io), N1 P0[31]/USB_D+2 (io), N4 P0[30]/USB_D-1/~{EINT1} (io), N6 P1[21]/USB_TX_DM1/PWM1[3]/SSP0_SSEL/~{MC_ABORT} (io), N7 P1[23]/USB_RX_DP1/PWM1[4]/QEI_PHB/MC_FB1/SSP0_MISO (io), N10 P1[29]/USB_SDA1/PWM1_CAP1/T0_MAT1/MC_2B/U4_TXD (io), N11 P0[1]/CAN_TD1/U3_RXD/I2C1_SCL/U0_RXD (io), P5 P1[19]/~{USB_TX_E1}/~{USB_PPWR1}/T1_CAP1/MC_0A/SSP1_SCK/U2_OE (io), P7 P1[24]/USB_RX_DM1/PWM1[5]/QEI_IDX/MC_FB2/SSP0_MOSI (io), P8 P1[26]/~{USB_SSPND1}/PWM1[6]/T0_CAP0/MC_1B/SSP1_SSEL (io), P10 P1[28]/USB_SCL1/PWM1_CAP0/T0_MAT0/MC_2A/SSP0_SSEL (io), P12 P0[11]/U2_RXD/I2C2_SCL/T3_MAT1 (io)
part B pins: A1 P3[12]/EMC_D[12] (io), A2 P3[2]/EMC_D[2] (io), A4 P3[9]/EMC_D[9] (io), A6 P3[8]/EMC_D[8] (io), B2 P3[11]/EMC_D[11] (io), B3 P3[10]/EMC_D[10] (io), C1 P3[13]/EMC_D[13] (io), C14 P2[1]/PWM1[2]/U1_RXD (io), D3 P3[4]/EMC_D[4] (io), D6 P3[0]/EMC_D[0] (io), D12 P2[0]/PWM1[1]/U1_TXD (io), E3 P3[5]/EMC_D[5] (io), E6 P3[1]/EMC_D[1] (io), E11 P2[2]/PWM1[3]/U1_CTS/T2_MAT3/TRACEDATA[3] (io), E13 P2[3]/PWM1[4]/U1_DCD/T2_MAT2/TRACEDATA[2] (io), E14 P2[4]/PWM1[5]/U1_DSR/T2_MAT1/TRACEDATA[1] (io), F1 P3[14]/EMC_D[14] (io), F4 P3[6]/EMC_D[6] (io), F12 P2[5]/PWM1[6]/U1_DTR/T2_MAT0/TRACEDATA[0] (io), F13 P2[6]/PWM1_CAP0/U1_RI/T2_CAP0/U2_OE/TRACECLK (io), G3 P3[7]/EMC_D[7] (io), G4 P3[15]/EMC_D[15] (io), G5 P3[3]/EMC_D[3] (io), G11 P2[7]/CAN_RD2/U1_RTS (io), G14 P2[8]/CAN_TD2/U2_TXD/U1_CTS/ENET_MDC (io), H11 P2[9]/USB_CONNECT1/U2_RXD/U4_RXD/ENET_MDIO (io), K7 P3[26]/EMC_D[26]/PWM1[3]/T0_MAT1/STCLK (io), L1 P2[29]/EMC_DQM1 (io), M2 P2[28]/EMC_DQM0 (io), M3 P3[25]/EMC_D[25]/PWM1[2]/T0_MAT0 (io), M4 P3[23]/EMC_D[23]/PWM1_CAP0/T0_CAP0 (io), M11 P2[13]/~{EINT3}/SD_DAT[3]/I2S_TX_SDA (io), M12 P2[11]/~{EINT1}/SD_DAT[1]/I2S_TX_SCK (io), M13 P2[10]/~{EINT0}/NMI (io), N3 P3[24]/EMC_D[24]/PWM1[1]/T0_CAP1 (io), N5 P2[19]/EMC_CLK[1] (io), N8 P2[21]/~{EMC_DYCS1} (io), N14 P2[12]/~{EINT2}/SD_DAT[2]/I2S_TX_WS (io), P1 P2[24]/EMC_CKE0 (io), P2 P2[25]/EMC_CKE1 (io), P3 P2[18]/EMC_CLK[0] (io), P6 P2[20]/~{EMC_DYCS0} (io), P9 P2[16]/~{EMC_CAS} (io), P11 P2[17]/~{EMC_RAS} (io)
part C pins: B9 P4[29]/~{EMC_BLS3}/U3_RXD/T2_MAT1/I2C2_SCL (io), B14 P4[13]/EMC_A[13] (io), C4 P5[4]/U0_OE/T3_MAT3/U4_TXD (io), C7 P4[30]/~{EMC_CS0} (io), C8 P4[24]/~{EMC_OE} (io), C10 P4[15]/EMC_A[15] (io), D9 P4[25]/~{EMC_WE} (io), D10 P4[28]/~{EMC_BLS2}/U3_TXD/T2_MAT0 (io), E5 P5[0]/EMC_A[24]/SSP2_MOSI/T2_MAT2 (io), E7 P4[31]/~{EMC_CS1} (io), E8 P4[14]/EMC_A[14] (io), F10 P4[12]/EMC_A[12] (io), F11 P4[11]/EMC_A[11] (io), F14 P4[27]/~{EMC_BLS1} (io), G10 P5[3]/U4_RXD/I2C0_SCL (io), G12 P4[10]/EMC_A[10] (io), H1 P5[1]/EMC_A[25]/SSP2_MISO/T2_MAT3 (io), H10 P4[5]/EMC_A[5] (io), H12 P4[9]/EMC_A[9] (io), J11 P4[8]/EMC_A[8] (io), K9 P4[3]/EMC_A[3] (io), K10 P4[6]/EMC_A[6] (io), K12 P4[7]/EMC_A[7] (io), K13 P4[26]/~{EMC_BLS0} (io), L6 P4[0]/EMC_A[0] (io), L12 P5[2]/T3_MAT2/I2C0_SDA (io), M7 P4[1]/EMC_A[1] (io), M8 P4[2]/EMC_A[2] (io), M14 P4[19]/EMC_A[19] (io), N12 P4[16]/EMC_A[16] (io), N13 P4[17]/EMC_A[17] (io), P13 P4[4]/EMC_A[4] (io), P14 P4[18]/EMC_A[18] (io)
part D pins: B1 JTAG_TDO(SWO) (out), C2 JTAG_TMS(SWDIO) (io), C3 JTAG_TDI (in), D2 JTAG_TCK(SWDCLK) (in), D4 JTAG_~{TRST} (in), H2 ~{RSTOUT} (out), H5 RTC_ALARM (out), J1 ~{RESET} (in), J2 RTCX1 (in), J3 RTCX2 (out), K4 XTAL2, L2 XTAL1, N2 USB_D-2 (io)
part E pins: A10 VSSREG (power), B4 VSS (power), C5 VDD(3V3) (power), C11 VSS (power), D13 VSS (power), E2 VDD(3V3) (power), E9 VDD(REG)(3V3) (power), E10 VDD(3V3) (power), E12 VDD(3V3) (power), F2 VDDA (power), F3 VSSA (power), G1 VDD(REG)(3V3) (power), G2 VREFP (power), G13 VSS (power), H3 VSSREG (power), H4 VSS (power), J14 VDD(3V3) (power), K1 VBAT (power), K8 VDD(3V3) (power), L4 VDD(3V3) (power), L8 VSSREG (power), L9 VSS (power), L11 VDD(3V3) (power), L13 VSS (power), N9 VDD(REG)(3V3) (power), P4 VSS (power)

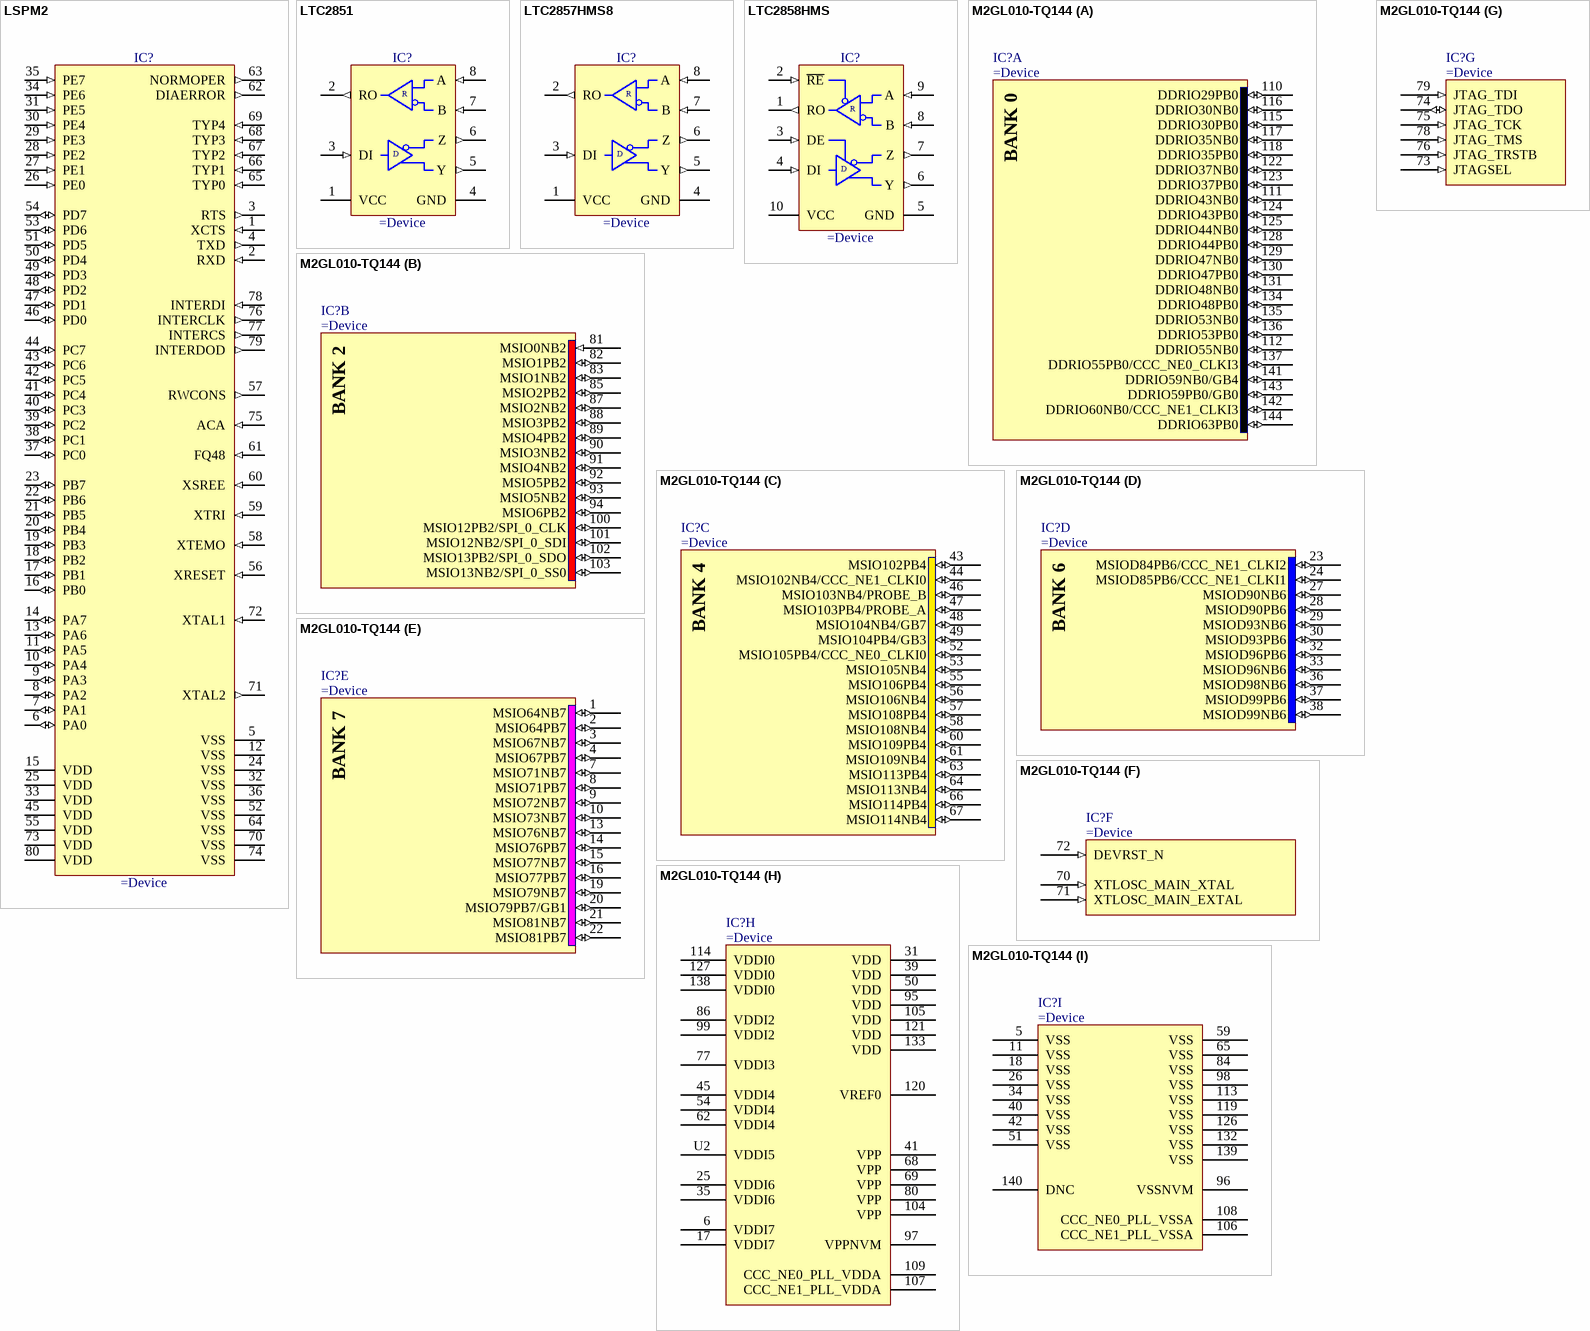
[diagram p77: symbols LSPM2 to M2GL010-TQ144]

## LSPM2
designator IC?
ASIC PROFIBUS Multiplexer
pins: 1 XCTS (in), 2 RXD (in), 3 RTS (out), 4 TXD (out), 5 VSS (power), 6 PA0 (io), 7 PA1 (io), 8 PA2 (io), 9 PA3 (io), 10 PA4 (io), 11 PA5 (io), 12 VSS (power), 13 PA6 (io), 14 PA7 (io), 15 VDD (power), 16 PB0 (io), 17 PB1 (io), 18 PB2 (io), 19 PB3 (io), 20 PB4 (io), 21 PB5 (io), 22 PB6 (io), 23 PB7 (io), 24 VSS (power), 25 VDD (power), 26 PE0 (in), 27 PE1 (in), 28 PE2 (in), 29 PE3 (in), 30 PE4 (in), 31 PE5 (in), 32 VSS (power), 33 VDD (power), 34 PE6 (in), 35 PE7 (in), 36 VSS (power), 37 PC0 (io), 38 PC1 (io), 39 PC2 (io), 40 PC3 (io), 41 PC4 (io), 42 PC5 (io), 43 PC6 (io), 44 PC7 (io), 45 VDD (power), 46 PD0 (io), 47 PD1 (io), 48 PD2 (io), 49 PD3 (io), 50 PD4 (io), 51 PD5 (io), 52 VSS (power), 53 PD6 (io), 54 PD7 (io), 55 VDD (power), 56 XRESET (in), 57 RWCONS (out), 58 XTEMO (in), 59 XTRI (in), 60 XSREE (in), 61 FQ48 (in), 62 DIAERROR (out), 63 NORMOPER (out), 64 VSS (power), 65 TYP0 (in), 66 TYP1 (in), 67 TYP2 (in), 68 TYP3 (in), 69 TYP4 (in), 70 VSS (power), 71 XTAL2 (out), 72 XTAL1 (in), 73 VDD (power), 74 VSS (power), 75 ACA (in), 76 INTERCLK (out), 77 INTERCS (out), 78 INTERDI (in), 79 INTERDOD (out), 80 VDD (power)

## LTC2851
designator IC?
3.3V 20Mbps RS485/RS422 Transceivers
pins: 1 VCC (power), 2 RO (out), 3 DI (in), 4 GND (power), 5 Y (out), 6 Z (out), 7 B (in), 8 A (in)
text: R; D

## LTC2857HMS8
designator IC?
20Mbps and Slew Rate Limited 15kV RS485/RS422 Transceivers
pins: 1 VCC (power), 2 RO (out), 3 DI (in), 4 GND (power), 5 Y (out), 6 Z (out), 7 B (in), 8 A (in)
text: R; D

## LTC2858HMS
designator IC?
20Mbps and Slew Rate Limited 15kV RS485/RS422 Full Duplex Transceivers With Low Power Shut Down Mode
pins: 1 RO (out), 2 ~{RE} (in), 3 DE (in), 4 DI (in), 5 GND (power), 6 Y (out), 7 Z (out), 8 B (in), 9 A (in), 10 VCC (power)
text: R; D

## M2GL010-TQ144
designator IC?
IGLOO2 FPGA, 12084 Cells, 75 User I/Os, 2 PLLs, 912K RAM, 1 PCIe, 144-Pin TQ144, Commercial Grade
part A pins: 110 DDRIO29PB0 (io), 111 DDRIO43NB0 (io), 112 DDRIO55NB0 (io), 115 DDRIO30PB0 (io), 116 DDRIO30NB0 (io), 117 DDRIO35NB0 (io), 118 DDRIO35PB0 (io), 122 DDRIO37NB0 (io), 123 DDRIO37PB0 (io), 124 DDRIO43PB0 (io), 125 DDRIO44NB0 (io), 128 DDRIO44PB0 (io), 129 DDRIO47NB0 (io), 130 DDRIO47PB0 (io), 131 DDRIO48NB0 (io), 134 DDRIO48PB0 (io), 135 DDRIO53NB0 (io), 136 DDRIO53PB0 (io), 137 DDRIO55PB0/CCC_NE0_CLKI3 (io), 141 DDRIO59NB0/GB4 (io), 142 DDRIO60NB0/CCC_NE1_CLKI3 (io), 143 DDRIO59PB0/GB0 (io), 144 DDRIO63PB0 (io)
part B pins: 81 MSIO0NB2 (in), 82 MSIO1PB2 (io), 83 MSIO1NB2 (io), 85 MSIO2PB2 (io), 87 MSIO2NB2 (io), 88 MSIO3PB2 (io), 89 MSIO4PB2 (io), 90 MSIO3NB2 (io), 91 MSIO4NB2 (io), 92 MSIO5PB2 (io), 93 MSIO5NB2 (io), 94 MSIO6PB2 (io), 100 MSIO12PB2/SPI_0_CLK (io), 101 MSIO12NB2/SPI_0_SDI (io), 102 MSIO13PB2/SPI_0_SDO (io), 103 MSIO13NB2/SPI_0_SS0 (io)
part C pins: 43 MSIO102PB4 (io), 44 MSIO102NB4/CCC_NE1_CLKI0 (io), 46 MSIO103NB4/PROBE_B (io), 47 MSIO103PB4/PROBE_A (io), 48 MSIO104NB4/GB7 (io), 49 MSIO104PB4/GB3 (io), 52 MSIO105PB4/CCC_NE0_CLKI0 (io), 53 MSIO105NB4 (io), 55 MSIO106PB4 (io), 56 MSIO106NB4 (io), 57 MSIO108PB4 (io), 58 MSIO108NB4 (io), 60 MSIO109PB4 (io), 61 MSIO109NB4 (io), 63 MSIO113PB4 (io), 64 MSIO113NB4 (io), 66 MSIO114PB4 (io), 67 MSIO114NB4 (io)
part D pins: 23 MSIOD84PB6/CCC_NE1_CLKI2 (io), 24 MSIOD85PB6/CCC_NE1_CLKI1 (io), 27 MSIOD90NB6 (io), 28 MSIOD90PB6 (io), 29 MSIOD93NB6 (io), 30 MSIOD93PB6 (io), 32 MSIOD96PB6 (io), 33 MSIOD96NB6 (io), 36 MSIOD98NB6 (io), 37 MSIOD99PB6 (io), 38 MSIOD99NB6 (io)
part E pins: 1 MSIO64NB7 (io), 2 MSIO64PB7 (io), 3 MSIO67NB7 (io), 4 MSIO67PB7 (io), 7 MSIO71NB7 (io), 8 MSIO71PB7 (io), 9 MSIO72NB7 (io), 10 MSIO73NB7 (io), 13 MSIO76NB7 (io), 14 MSIO76PB7 (io), 15 MSIO77NB7 (io), 16 MSIO77PB7 (io), 19 MSIO79NB7 (io), 20 MSIO79PB7/GB1 (io), 21 MSIO81NB7 (io), 22 MSIO81PB7 (io)
part F pins: 70 XTLOSC_MAIN_XTAL (in), 71 XTLOSC_MAIN_EXTAL (in), 72 DEVRST_N (in)
part G pins: 73 JTAGSEL (in), 74 JTAG_TDO (io), 75 JTAG_TCK (in), 76 JTAG_TRSTB (in), 78 JTAG_TMS (in), 79 JTAG_TDI (in)
part H pins: 6 VDDI7 (power), 17 VDDI7 (power), 25 VDDI6 (power), 31 VDD (power), 35 VDDI6 (power), 39 VDD (power), 41 VPP (power), 45 VDDI4 (power), 50 VDD (power), 54 VDDI4 (power), 62 VDDI4 (power), 68 VPP (power), 69 VPP (power), 77 VDDI3 (power), 80 VPP (power), 86 VDDI2 (power), 95 VDD (power), 97 VPPNVM (power), 99 VDDI2 (power), 104 VPP (power), 105 VDD (power), 107 CCC_NE1_PLL_VDDA (power), 109 CCC_NE0_PLL_VDDA (power), 114 VDDI0 (power), 120 VREF0 (power), 121 VDD (power), 127 VDDI0 (power), 133 VDD (power), 138 VDDI0 (power), U2 VDDI5 (power)
part I pins: 5 VSS (power), 11 VSS (power), 18 VSS (power), 26 VSS (power), 34 VSS (power), 40 VSS (power), 42 VSS (power), 51 VSS (power), 59 VSS (power), 65 VSS (power), 84 VSS (power), 96 VSSNVM (power), 98 VSS (power), 106 CCC_NE1_PLL_VSSA (power), 108 CCC_NE0_PLL_VSSA (power), 113 VSS (power), 119 VSS (power), 126 VSS (power), 132 VSS (power), 139 VSS (power), 140 DNC
part A text: BANK 0
part B text: BANK 2
part C text: BANK 4
part D text: BANK 6
part E text: BANK 7

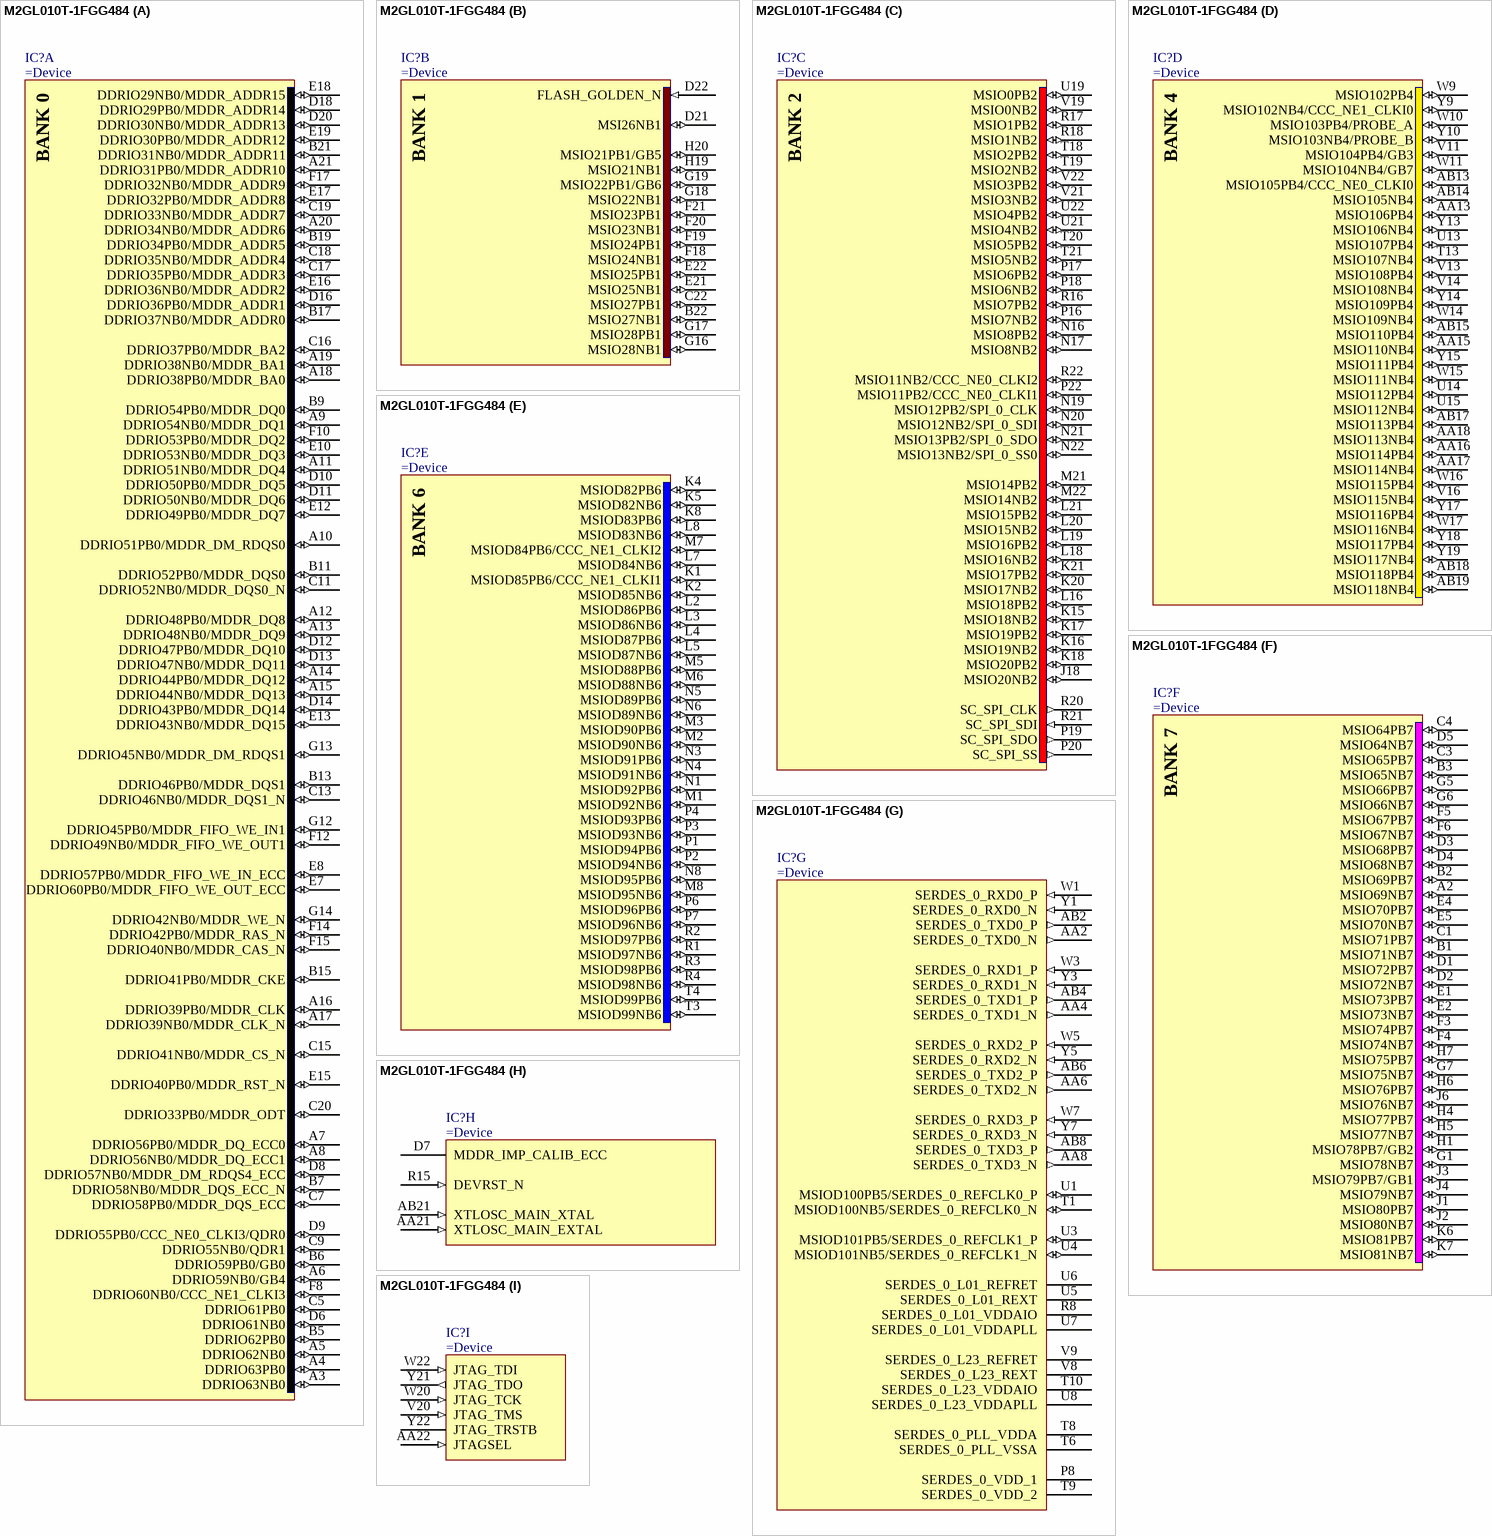
[diagram p78: symbol M2GL010T-1FGG484]

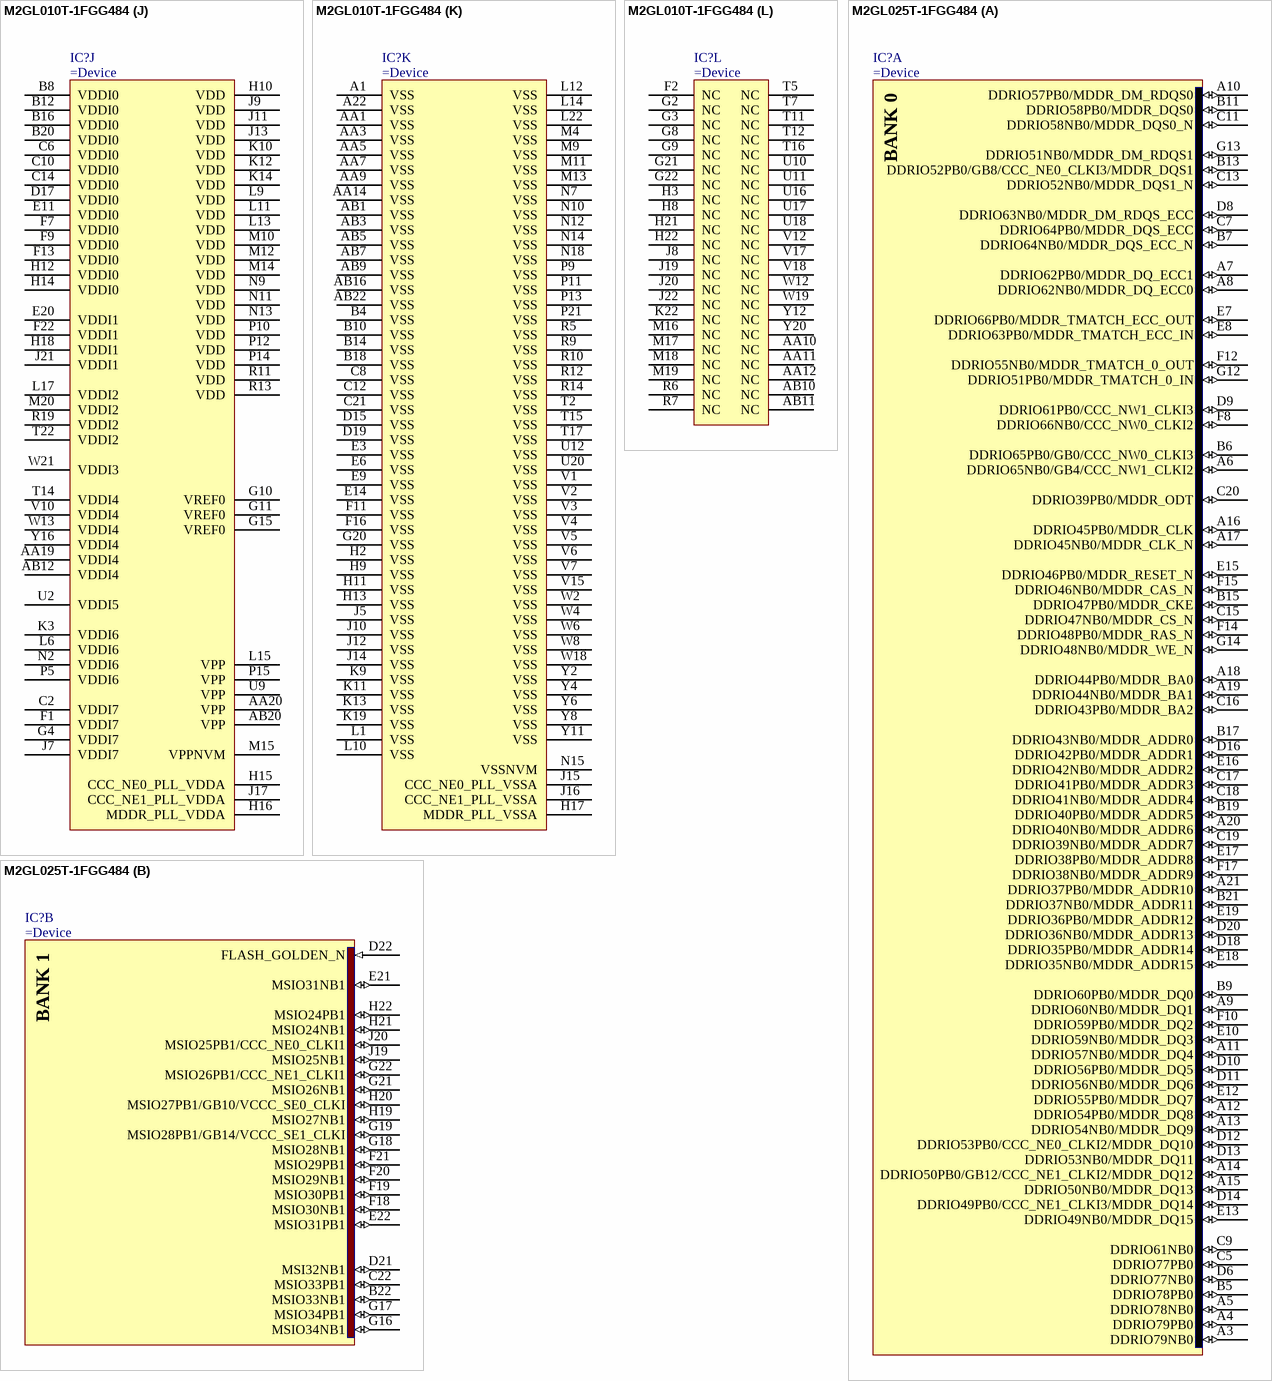
[diagram p79: symbols M2GL010T-1FGG484 to M2GL025T-1FGG484]

## M2GL010T-1FGG484
designator IC?
IGLOO2 FPGA, 12084 Cells, 233 User I/Os,  2 PLLs, 912K RAM, 1 PCIe, 484-Pin FBGA, Commercial Grade
part A pins: A3 DDRIO63NB0 (io), A4 DDRIO63PB0 (io), A5 DDRIO62NB0 (io), A6 DDRIO59NB0/GB4 (io), A7 DDRIO56PB0/MDDR_DQ_ECC0 (io), A8 DDRIO56NB0/MDDR_DQ_ECC1 (io), A9 DDRIO54NB0/MDDR_DQ1 (io), A10 DDRIO51PB0/MDDR_DM_RDQS0 (io), A11 DDRIO51NB0/MDDR_DQ4 (io), A12 DDRIO48PB0/MDDR_DQ8 (io), A13 DDRIO48NB0/MDDR_DQ9 (io), A14 DDRIO44PB0/MDDR_DQ12 (io), A15 DDRIO44NB0/MDDR_DQ13 (io), A16 DDRIO39PB0/MDDR_CLK (io), A17 DDRIO39NB0/MDDR_CLK_N (io), A18 DDRIO38PB0/MDDR_BA0 (io), A19 DDRIO38NB0/MDDR_BA1 (io), A20 DDRIO34NB0/MDDR_ADDR6 (io), A21 DDRIO31PB0/MDDR_ADDR10 (io), B5 DDRIO62PB0 (io), B6 DDRIO59PB0/GB0 (io), B7 DDRIO58NB0/MDDR_DQS_ECC_N (io), B9 DDRIO54PB0/MDDR_DQ0 (io), B11 DDRIO52PB0/MDDR_DQS0 (io), B13 DDRIO46PB0/MDDR_DQS1 (io), B15 DDRIO41PB0/MDDR_CKE (io), B17 DDRIO37NB0/MDDR_ADDR0 (io), B19 DDRIO34PB0/MDDR_ADDR5 (io), B21 DDRIO31NB0/MDDR_ADDR11 (io), C5 DDRIO61PB0 (io), C7 DDRIO58PB0/MDDR_DQS_ECC (io), C9 DDRIO55NB0/QDR1 (io), C11 DDRIO52NB0/MDDR_DQS0_N (io), C13 DDRIO46NB0/MDDR_DQS1_N (io), C15 DDRIO41NB0/MDDR_CS_N (io), C16 DDRIO37PB0/MDDR_BA2 (io), C17 DDRIO35PB0/MDDR_ADDR3 (io), C18 DDRIO35NB0/MDDR_ADDR4 (io), C19 DDRIO33NB0/MDDR_ADDR7 (io), C20 DDRIO33PB0/MDDR_ODT (io), D6 DDRIO61NB0 (io), D8 DDRIO57NB0/MDDR_DM_RDQS4_ECC (io), D9 DDRIO55PB0/CCC_NE0_CLKI3/QDR0 (io), D10 DDRIO50PB0/MDDR_DQ5 (io), D11 DDRIO50NB0/MDDR_DQ6 (io), D12 DDRIO47PB0/MDDR_DQ10 (io), D13 DDRIO47NB0/MDDR_DQ11 (io), D14 DDRIO43PB0/MDDR_DQ14 (io), D16 DDRIO36PB0/MDDR_ADDR1 (io), D18 DDRIO29PB0/MDDR_ADDR14 (io), D20 DDRIO30NB0/MDDR_ADDR13 (io), E7 DDRIO60PB0/MDDR_FIFO_WE_OUT_ECC (io), E8 DDRIO57PB0/MDDR_FIFO_WE_IN_ECC (io), E10 DDRIO53NB0/MDDR_DQ3 (io), E12 DDRIO49PB0/MDDR_DQ7 (io), E13 DDRIO43NB0/MDDR_DQ15 (io), E15 DDRIO40PB0/MDDR_RST_N (io), E16 DDRIO36NB0/MDDR_ADDR2 (io), E17 DDRIO32PB0/MDDR_ADDR8 (io), E18 DDRIO29NB0/MDDR_ADDR15 (io), E19 DDRIO30PB0/MDDR_ADDR12 (io), F8 DDRIO60NB0/CCC_NE1_CLKI3 (io), F10 DDRIO53PB0/MDDR_DQ2 (io), F12 DDRIO49NB0/MDDR_FIFO_WE_OUT1 (io), F14 DDRIO42PB0/MDDR_RAS_N (io), F15 DDRIO40NB0/MDDR_CAS_N (io), F17 DDRIO32NB0/MDDR_ADDR9 (io), G12 DDRIO45PB0/MDDR_FIFO_WE_IN1 (io), G13 DDRIO45NB0/MDDR_DM_RDQS1 (io), G14 DDRIO42NB0/MDDR_WE_N (io)
part B pins: B22 MSIO27NB1 (io), C22 MSIO27PB1 (io), D21 MSI26NB1 (io), D22 FLASH_GOLDEN_N (in), E21 MSIO25NB1 (io), E22 MSIO25PB1 (io), F18 MSIO24NB1 (io), F19 MSIO24PB1 (io), F20 MSIO23NB1 (io), F21 MSIO23PB1 (io), G16 MSIO28NB1 (io), G17 MSIO28PB1 (io), G18 MSIO22NB1 (io), G19 MSIO22PB1/GB6 (io), H19 MSIO21NB1 (io), H20 MSIO21PB1/GB5 (io)
part C pins: J18 MSIO20NB2 (io), K15 MSIO18NB2 (io), K16 MSIO19NB2 (io), K17 MSIO19PB2 (io), K18 MSIO20PB2 (io), K20 MSIO17NB2 (io), K21 MSIO17PB2 (io), L16 MSIO18PB2 (io), L18 MSIO16NB2 (io), L19 MSIO16PB2 (io), L20 MSIO15NB2 (io), L21 MSIO15PB2 (io), M21 MSIO14PB2 (io), M22 MSIO14NB2 (io), N16 MSIO8PB2 (io), N17 MSIO8NB2 (io), N19 MSIO12PB2/SPI_0_CLK (io), N20 MSIO12NB2/SPI_0_SDI (io), N21 MSIO13PB2/SPI_0_SDO (io), N22 MSIO13NB2/SPI_0_SS0 (io), P16 MSIO7NB2 (io), P17 MSIO6PB2 (io), P18 MSIO6NB2 (io), P19 SC_SPI_SDO (out), P20 SC_SPI_SS (out), P22 MSIO11PB2/CCC_NE0_CLKI1 (io), R16 MSIO7PB2 (io), R17 MSIO1PB2 (io), R18 MSIO1NB2 (io), R20 SC_SPI_CLK (out), R21 SC_SPI_SDI (in), R22 MSIO11NB2/CCC_NE0_CLKI2 (io), T18 MSIO2PB2 (io), T19 MSIO2NB2 (io), T20 MSIO5PB2 (io), T21 MSIO5NB2 (io), U19 MSIO0PB2 (io), U21 MSIO4NB2 (io), U22 MSIO4PB2 (io), V19 MSIO0NB2 (io), V21 MSIO3NB2 (io), V22 MSIO3PB2 (io)
part D pins: AA13 MSIO106PB4 (io), AA15 MSIO110NB4 (io), AA16 MSIO114PB4 (io), AA17 MSIO114NB4 (io), AA18 MSIO113NB4 (io), AB13 MSIO105PB4/CCC_NE0_CLKI0 (io), AB14 MSIO105NB4 (io), AB15 MSIO110PB4 (io), AB17 MSIO113PB4 (io), AB18 MSIO118PB4 (io), AB19 MSIO118NB4 (io), T13 MSIO107NB4 (io), U13 MSIO107PB4 (io), U14 MSIO112PB4 (io), U15 MSIO112NB4 (io), V11 MSIO104PB4/GB3 (io), V13 MSIO108PB4 (io), V14 MSIO108NB4 (io), V16 MSIO115NB4 (io), W9 MSIO102PB4 (io), W10 MSIO103PB4/PROBE_A (io), W11 MSIO104NB4/GB7 (io), W14 MSIO109NB4 (io), W15 MSIO111NB4 (io), W16 MSIO115PB4 (io), W17 MSIO116NB4 (io), Y9 MSIO102NB4/CCC_NE1_CLKI0 (io), Y10 MSIO103NB4/PROBE_B (io), Y13 MSIO106NB4 (io), Y14 MSIO109PB4 (io), Y15 MSIO111PB4 (io), Y17 MSIO116PB4 (io), Y18 MSIO117PB4 (io), Y19 MSIO117NB4 (io)
part E pins: K1 MSIOD85PB6/CCC_NE1_CLKI1 (io), K2 MSIOD85NB6 (io), K4 MSIOD82PB6 (io), K5 MSIOD82NB6 (io), K8 MSIOD83PB6 (io), L2 MSIOD86PB6 (io), L3 MSIOD86NB6 (io), L4 MSIOD87PB6 (io), L5 MSIOD87NB6 (io), L7 MSIOD84NB6 (io), L8 MSIOD83NB6 (io), M1 MSIOD92NB6 (io), M2 MSIOD90NB6 (io), M3 MSIOD90PB6 (io), M5 MSIOD88PB6 (io), M6 MSIOD88NB6 (io), M7 MSIOD84PB6/CCC_NE1_CLKI2 (io), M8 MSIOD95NB6 (io), N1 MSIOD92PB6 (io), N3 MSIOD91PB6 (io), N4 MSIOD91NB6 (io), N5 MSIOD89PB6 (io), N6 MSIOD89NB6 (io), N8 MSIOD95PB6 (io), P1 MSIOD94PB6 (io), P2 MSIOD94NB6 (io), P3 MSIOD93NB6 (io), P4 MSIOD93PB6 (io), P6 MSIOD96PB6 (io), P7 MSIOD96NB6 (io), R1 MSIOD97NB6 (io), R2 MSIOD97PB6 (io), R3 MSIOD98PB6 (io), R4 MSIOD98NB6 (io), T3 MSIOD99NB6 (io), T4 MSIOD99PB6 (io)
part F pins: A2 MSIO69NB7 (io), B1 MSIO71NB7 (io), B2 MSIO69PB7 (io), B3 MSIO65NB7 (io), C1 MSIO71PB7 (io), C3 MSIO65PB7 (io), C4 MSIO64PB7 (io), D1 MSIO72PB7 (io), D2 MSIO72NB7 (io), D3 MSIO68PB7 (io), D4 MSIO68NB7 (io), D5 MSIO64NB7 (io), E1 MSIO73PB7 (io), E2 MSIO73NB7 (io), E4 MSIO70PB7 (io), E5 MSIO70NB7 (io), F3 MSIO74PB7 (io), F4 MSIO74NB7 (io), F5 MSIO67PB7 (io), F6 MSIO67NB7 (io), G1 MSIO78NB7 (io), G5 MSIO66PB7 (io), G6 MSIO66NB7 (io), G7 MSIO75NB7 (io), H1 MSIO78PB7/GB2 (io), H4 MSIO77PB7 (io), H5 MSIO77NB7 (io), H6 MSIO76PB7 (io), H7 MSIO75PB7 (io), J1 MSIO80PB7 (io), J2 MSIO80NB7 (io), J3 MSIO79PB7/GB1 (io), J4 MSIO79NB7 (io), J6 MSIO76NB7 (io), K6 MSIO81PB7 (io), K7 MSIO81NB7 (io)
part G pins: AA2 SERDES_0_TXD0_N (out), AA4 SERDES_0_TXD1_N (out), AA6 SERDES_0_TXD2_N (out), AA8 SERDES_0_TXD3_N (out), AB2 SERDES_0_TXD0_P (out), AB4 SERDES_0_TXD1_P (out), AB6 SERDES_0_TXD2_P (out), AB8 SERDES_0_TXD3_P (out), P8 SERDES_0_VDD_1 (power), R8 SERDES_0_L01_VDDAIO (power), T1 MSIOD100NB5/SERDES_0_REFCLK0_N (io), T6 SERDES_0_PLL_VSSA (power), T8 SERDES_0_PLL_VDDA (power), T9 SERDES_0_VDD_2 (power), T10 SERDES_0_L23_VDDAIO (power), U1 MSIOD100PB5/SERDES_0_REFCLK0_P (io), U3 MSIOD101PB5/SERDES_0_REFCLK1_P (io), U4 MSIOD101NB5/SERDES_0_REFCLK1_N (io), U5 SERDES_0_L01_REXT (power), U6 SERDES_0_L01_REFRET (power), U7 SERDES_0_L01_VDDAPLL (power), U8 SERDES_0_L23_VDDAPLL (power), V8 SERDES_0_L23_REXT (power), V9 SERDES_0_L23_REFRET (power), W1 SERDES_0_RXD0_P (in), W3 SERDES_0_RXD1_P (in), W5 SERDES_0_RXD2_P (in), W7 SERDES_0_RXD3_P (in), Y1 SERDES_0_RXD0_N (in), Y3 SERDES_0_RXD1_N (in), Y5 SERDES_0_RXD2_N (in), Y7 SERDES_0_RXD3_N (in)
part H pins: AA21 XTLOSC_MAIN_EXTAL (in), AB21 XTLOSC_MAIN_XTAL (in), D7 MDDR_IMP_CALIB_ECC (power), R15 DEVRST_N (in)
part I pins: AA22 JTAGSEL (in), V20 JTAG_TMS (in), W20 JTAG_TCK (in), W22 JTAG_TDI (in), Y21 JTAG_TDO (out), Y22 JTAG_TRSTB
part J pins: AA19 VDDI4 (power), AA20 VPP (power), AB12 VDDI4 (power), AB20 VPP (power), B8 VDDI0 (power), B12 VDDI0 (power), B16 VDDI0 (power), B20 VDDI0 (power), C2 VDDI7 (power), C6 VDDI0 (power), C10 VDDI0 (power), C14 VDDI0 (power), D17 VDDI0 (power), E11 VDDI0 (power), E20 VDDI1 (power), F1 VDDI7 (power), F7 VDDI0 (power), F9 VDDI0 (power), F13 VDDI0 (power), F22 VDDI1 (power), G4 VDDI7 (power), G10 VREF0 (power), G11 VREF0 (power), G15 VREF0 (power), H10 VDD (power), H12 VDDI0 (power), H14 VDDI0 (power), H15 CCC_NE0_PLL_VDDA (power), H16 MDDR_PLL_VDDA (power), H18 VDDI1 (power), J7 VDDI7 (power), J9 VDD (power), J11 VDD (power), J13 VDD (power), J17 CCC_NE1_PLL_VDDA (power), J21 VDDI1 (power), K3 VDDI6 (power), K10 VDD (power), K12 VDD (power), K14 VDD (power), L6 VDDI6 (power), L9 VDD (power), L11 VDD (power), L13 VDD (power), L15 VPP (power), L17 VDDI2 (power), M10 VDD (power), M12 VDD (power), M14 VDD (power), M15 VPPNVM (power), M20 VDDI2 (power), N2 VDDI6 (power), N9 VDD (power), N11 VDD (power), N13 VDD (power), P5 VDDI6 (power), P10 VDD (power), P12 VDD (power), P14 VDD (power), P15 VPP (power), R11 VDD (power), R13 VDD (power), R19 VDDI2 (power), T14 VDDI4 (power), T22 VDDI2 (power), U2 VDDI5 (power), U9 VPP (power), V10 VDDI4 (power), W13 VDDI4 (power), W21 VDDI3 (power), Y16 VDDI4 (power)
part K pins: A1 VSS (power), A22 VSS (power), AA1 VSS (power), AA3 VSS (power), AA5 VSS (power), AA7 VSS (power), AA9 VSS (power), AA14 VSS (power), AB1 VSS (power), AB3 VSS (power), AB5 VSS (power), AB7 VSS (power), AB9 VSS (power), AB16 VSS (power), AB22 VSS (power), B4 VSS (power), B10 VSS (power), B14 VSS (power), B18 VSS (power), C8 VSS (power), C12 VSS (power), C21 VSS (power), D15 VSS (power), D19 VSS (power), E3 VSS (power), E6 VSS (power), E9 VSS (power), E14 VSS (power), F11 VSS (power), F16 VSS (power), G20 VSS (power), H2 VSS (power), H9 VSS (power), H11 VSS (power), H13 VSS (power), H17 MDDR_PLL_VSSA (power), J5 VSS (power), J10 VSS (power), J12 VSS (power), J14 VSS (power), J15 CCC_NE0_PLL_VSSA (power), J16 CCC_NE1_PLL_VSSA (power), K9 VSS (power), K11 VSS (power), K13 VSS (power), K19 VSS (power), L1 VSS (power), L10 VSS (power), L12 VSS (power), L14 VSS (power), L22 VSS (power), M4 VSS (power), M9 VSS (power), M11 VSS (power), M13 VSS (power), N7 VSS (power), N10 VSS (power), N12 VSS (power), N14 VSS (power), N15 VSSNVM (power), N18 VSS (power), P9 VSS (power), P11 VSS (power), P13 VSS (power), P21 VSS (power), R5 VSS (power), R9 VSS (power), R10 VSS (power), R12 VSS (power), R14 VSS (power), T2 VSS (power), T15 VSS (power), T17 VSS (power), U12 VSS (power), U20 VSS (power), V1 VSS (power), V2 VSS (power), V3 VSS (power), V4 VSS (power), V5 VSS (power), V6 VSS (power), V7 VSS (power), V15 VSS (power), W2 VSS (power), W4 VSS (power), W6 VSS (power), W8 VSS (power), W18 VSS (power), Y2 VSS (power), Y4 VSS (power), Y6 VSS (power), Y8 VSS (power), Y11 VSS (power)
part L pins: AA10 NC, AA11 NC, AA12 NC, AB10 NC, AB11 NC, F2 NC, G2 NC, G3 NC, G8 NC, G9 NC, G21 NC, G22 NC, H3 NC, H8 NC, H21 NC, H22 NC, J8 NC, J19 NC, J20 NC, J22 NC, K22 NC, M16 NC, M17 NC, M18 NC, M19 NC, R6 NC, R7 NC, T5 NC, T7 NC, T11 NC, T12 NC, T16 NC, U10 NC, U11 NC, U16 NC, U17 NC, U18 NC, V12 NC, V17 NC, V18 NC, W12 NC, W19 NC, Y12 NC, Y20 NC
part A text: BANK 0
part B text: BANK 1
part C text: BANK 2
part D text: BANK 4
part E text: BANK 6
part F text: BANK 7

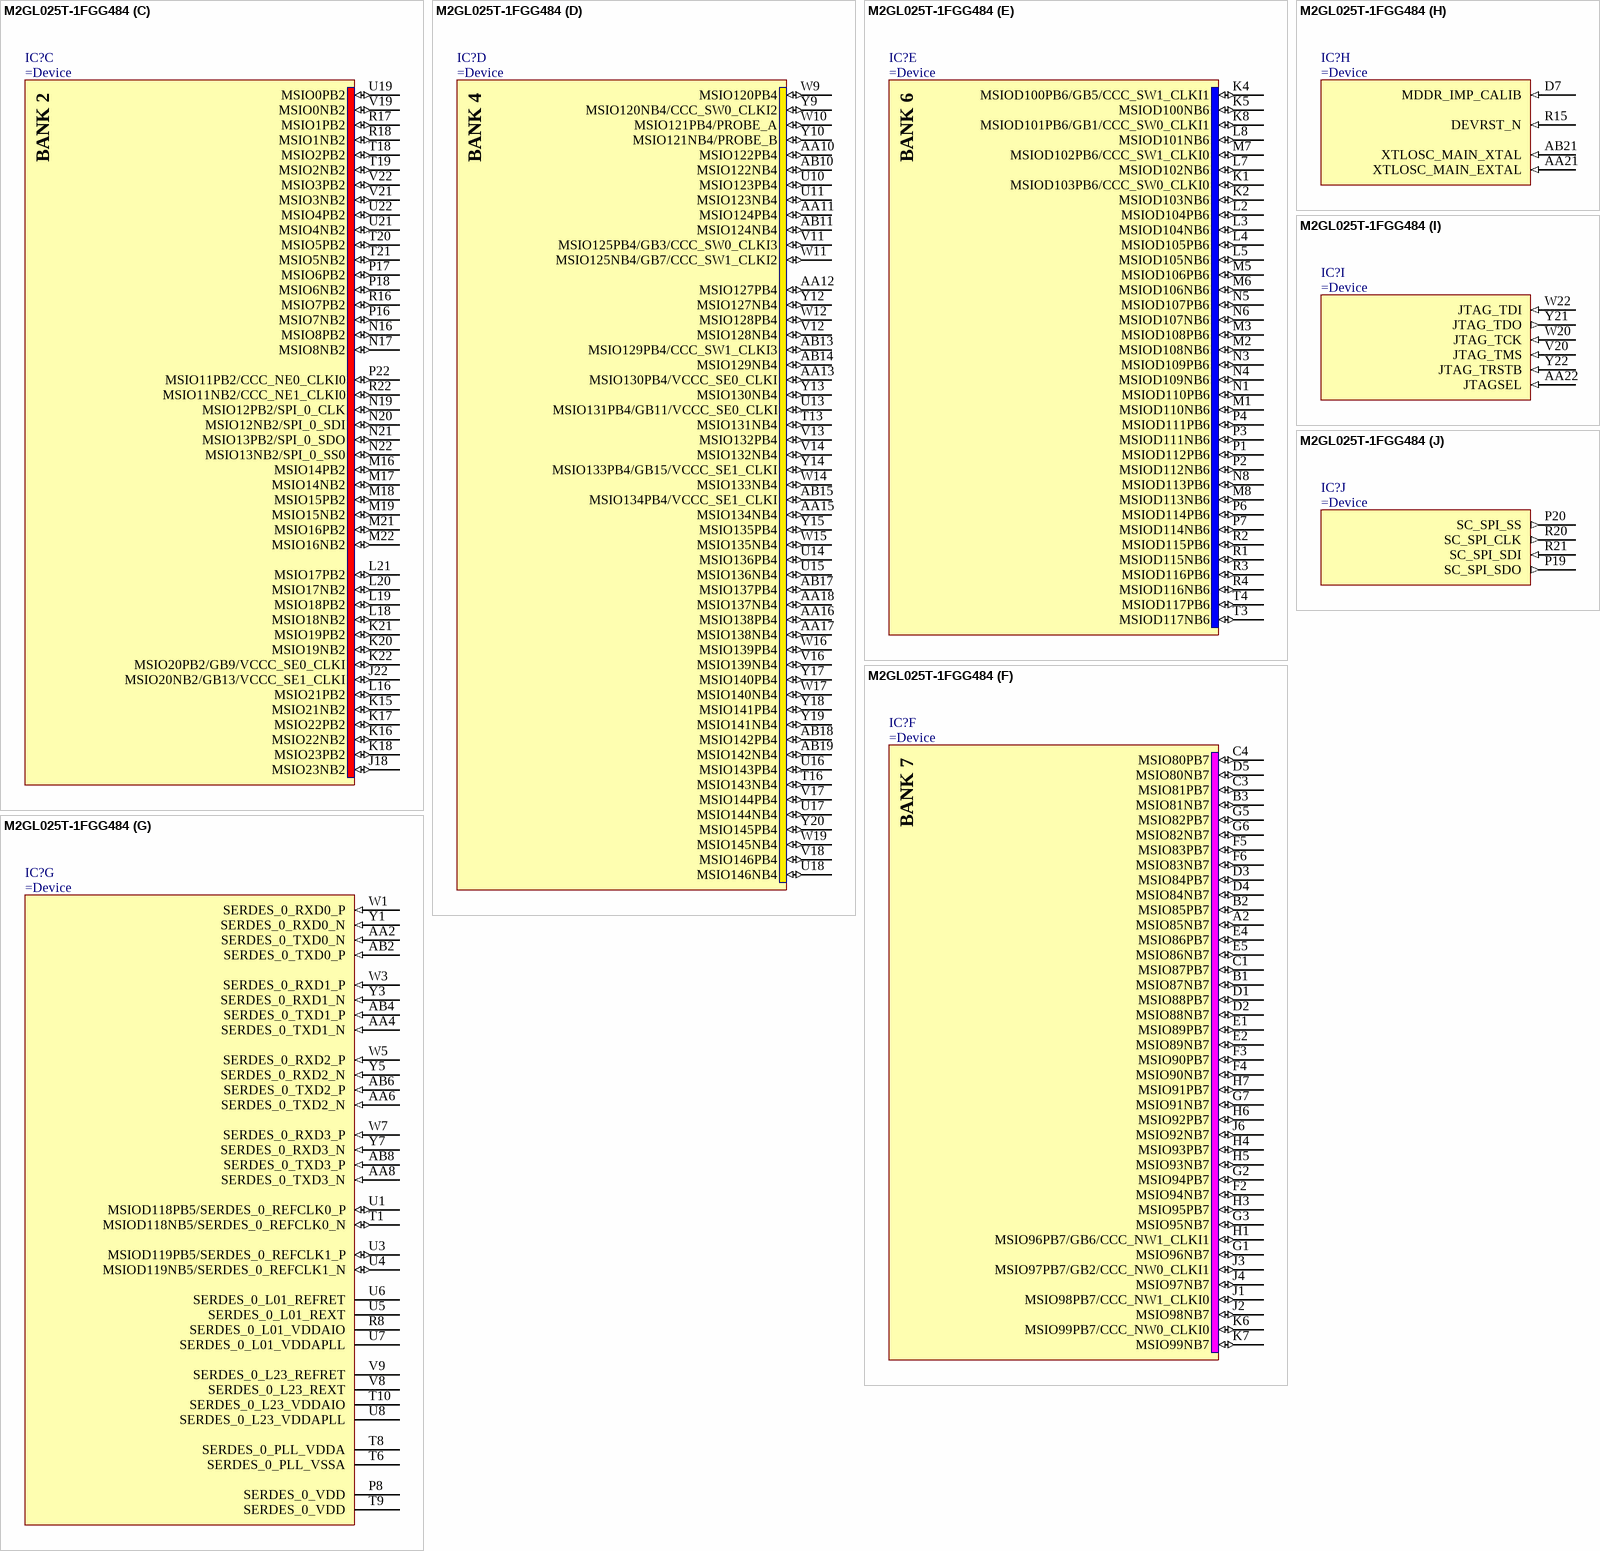
[diagram p80: symbol M2GL025T-1FGG484]

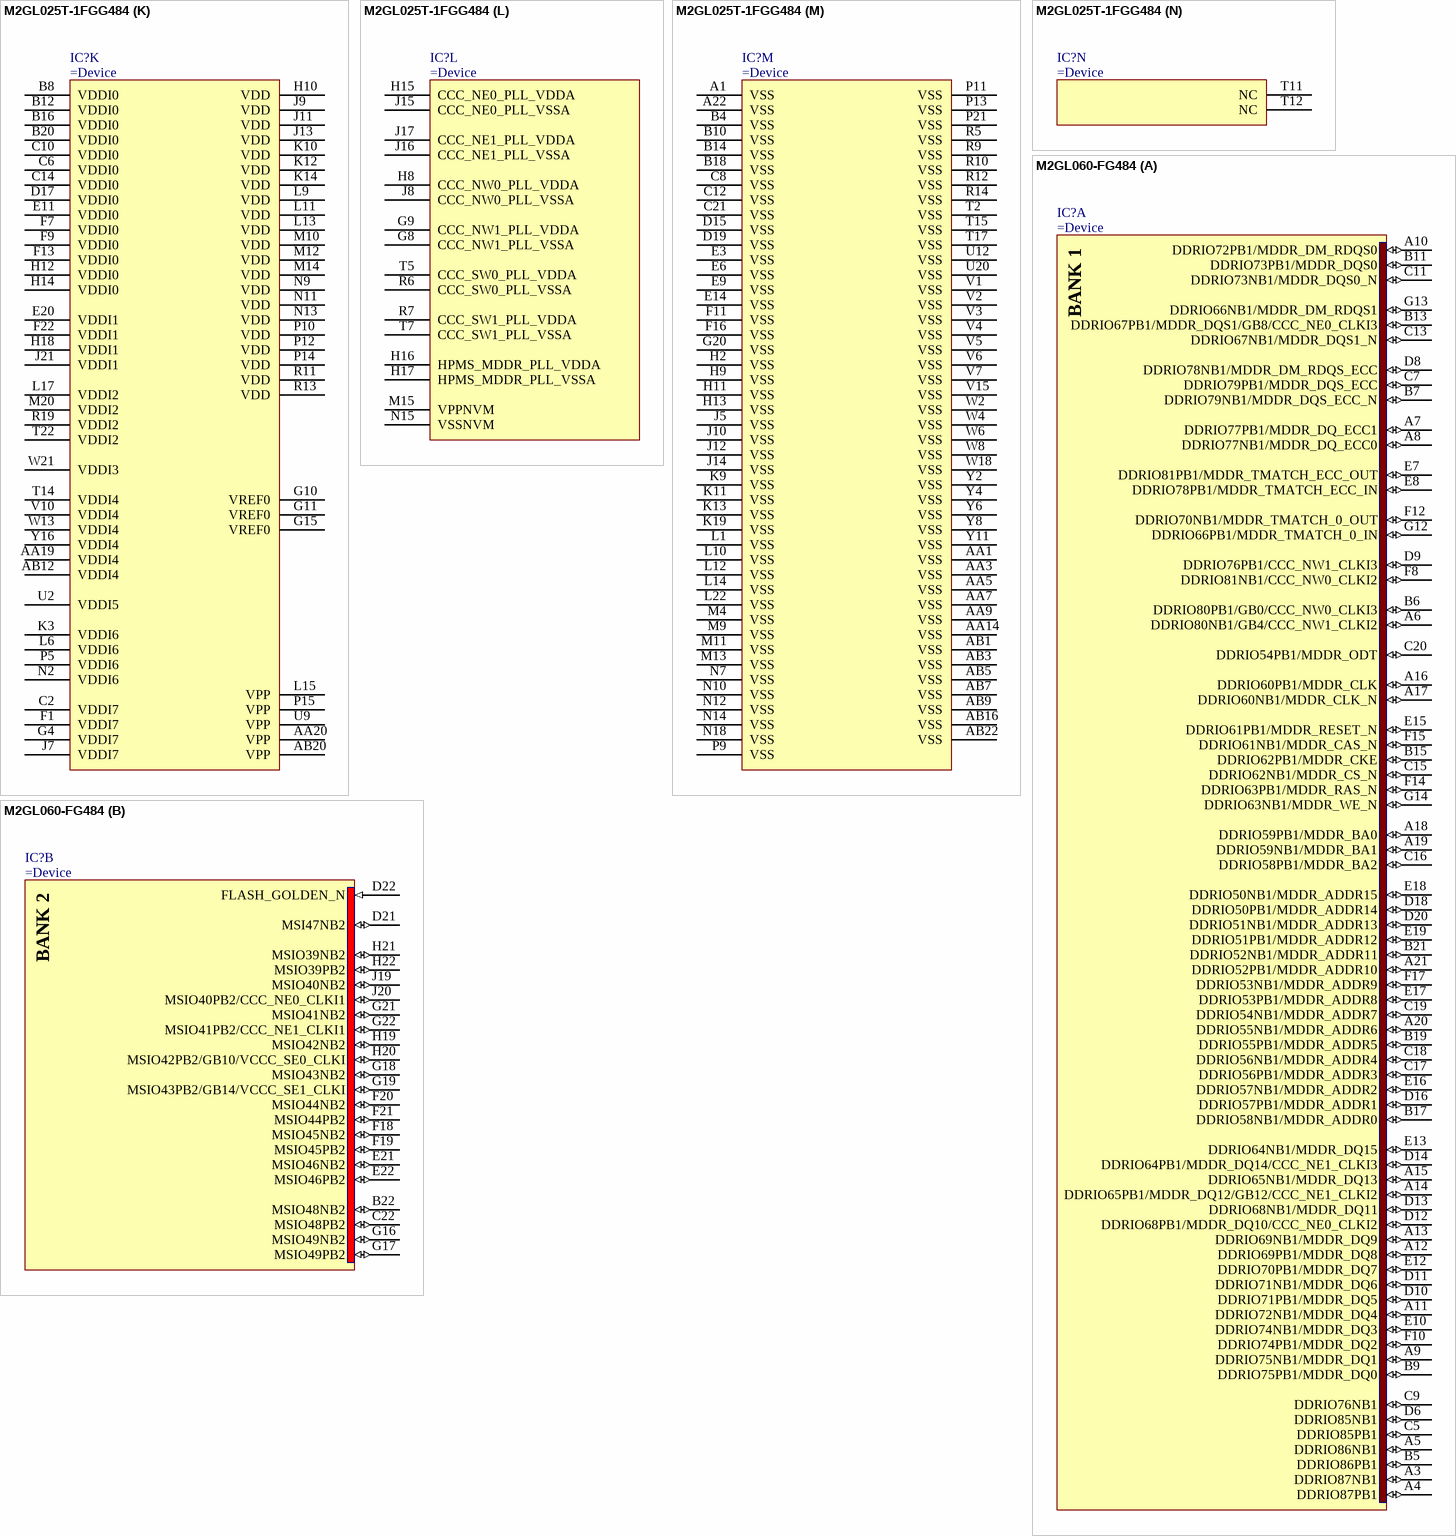
[diagram p81: symbols M2GL025T-1FGG484 to M2GL060-FG484]